# Altium schematic symbol library Analog_ADC.SchLib: 156 symbols (part 1 of 2)
Pins are listed as number, name and electrical type; pins without a type are passive.

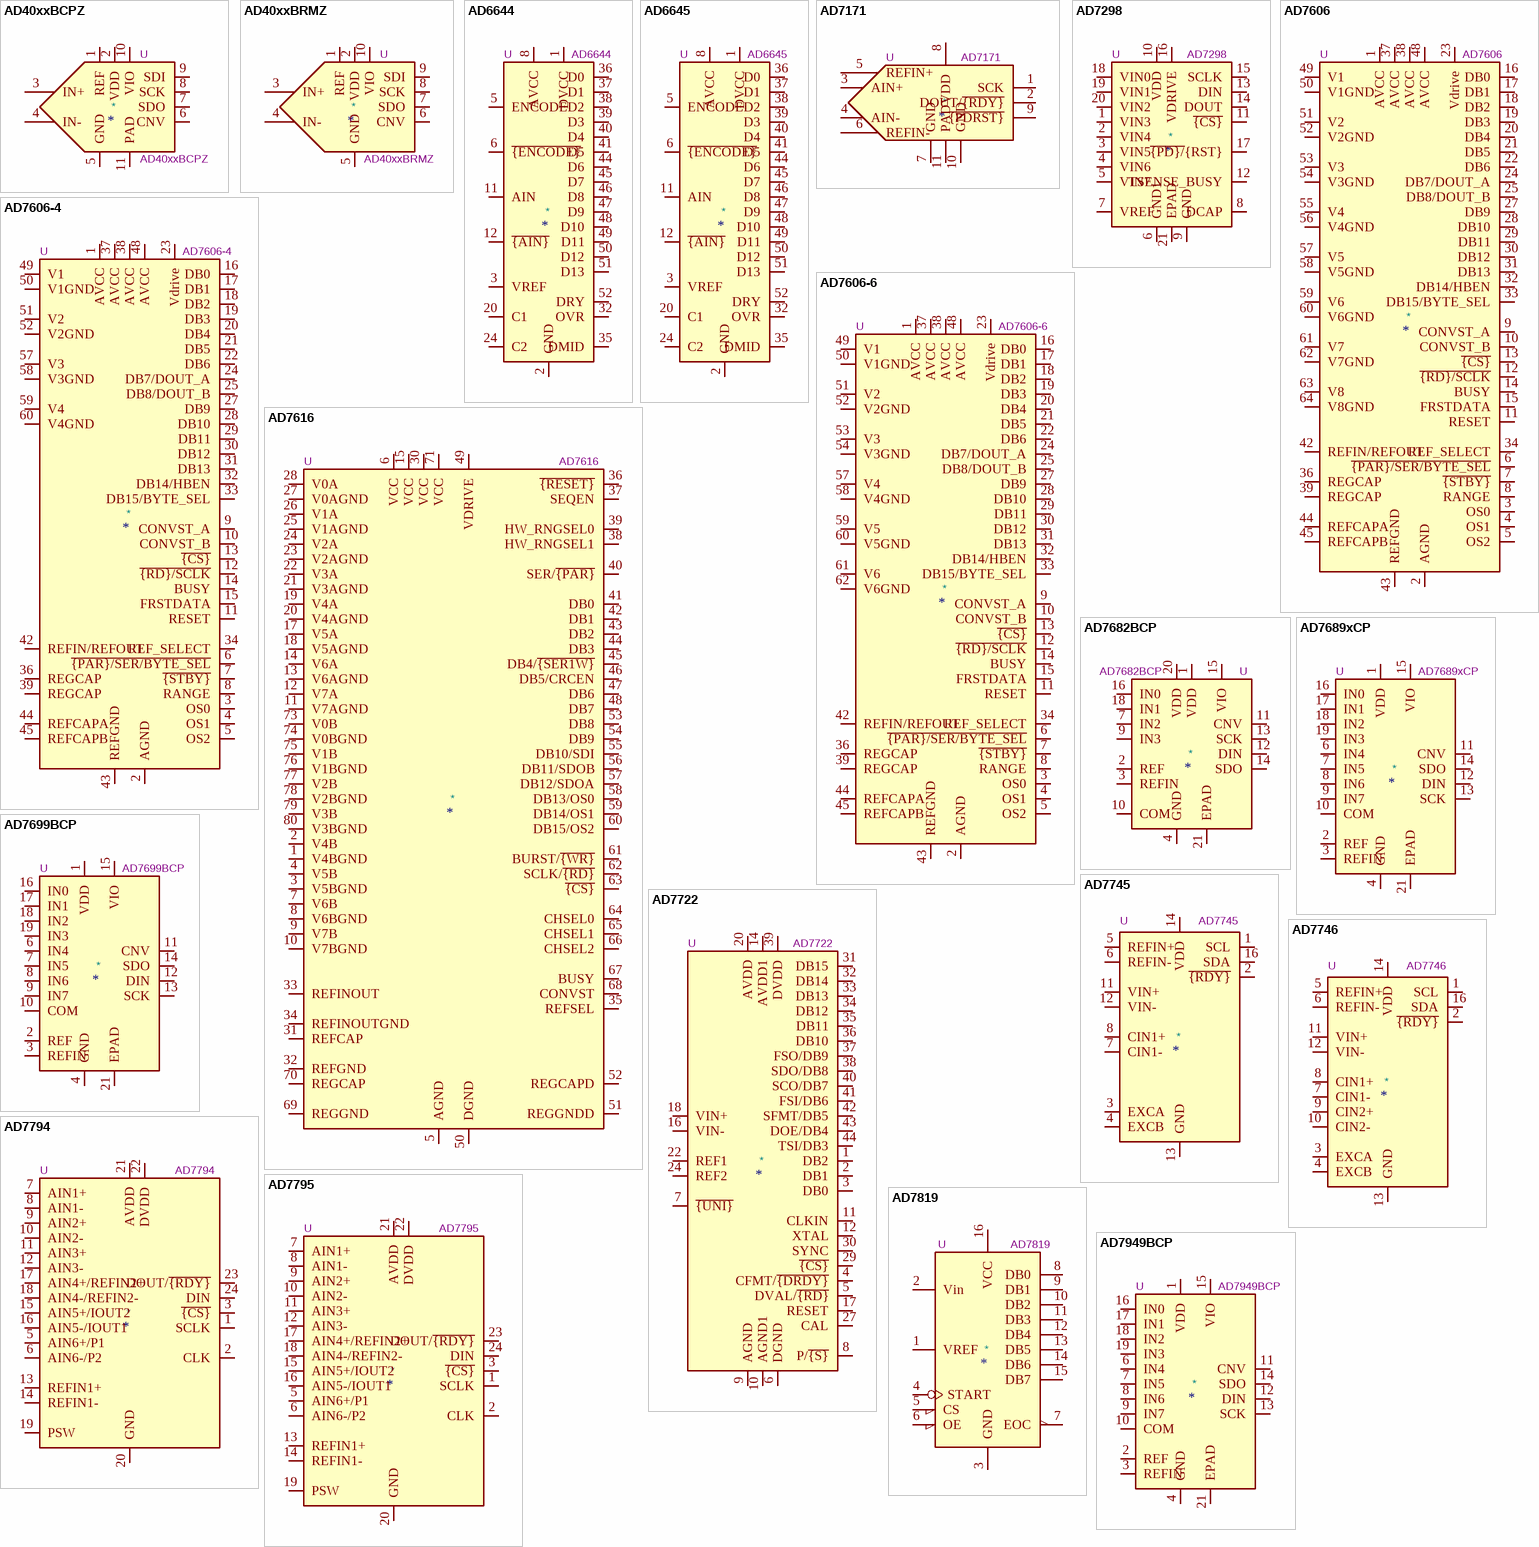
[diagram p0: symbols AD40xxBCPZ to AD7949BCP]

## AD40xxBCPZ
designator *  value AD40xxBCPZ  Reference: U
ki_keywords: ADC 18-bit AD4003BCPZ AD4007BCPZ AD4011BCPZ; ki_description: 18-Bit, 2 MSPS/1 MSPS/500 kSPS, Differential SAR ADCs, 2.4V to 5.1V reference, 1.8V supply, 1.71 to 5.5V logic IO, 3x3mm LFCSP-10; ki_fp_filters: *LFCSP?WD*EP?3x3mm?P0.5mm?EP1.64x2.38mm*; Footprint: Package_CSP:LFCSP-WD-10-1EP_3x3mm_P0.5mm_EP1.64x2.38mm; Datasheet: https://www.analog.com/media/en/technical-documentation/data-sheets/ad4003-4007-4011.pdf
pins: 1 REF, 2 VDD, 3 IN+, 4 IN-, 5 GND, 6 CNV, 7 SDO, 8 SCK, 9 SDI, 10 VIO, 11 PAD

## AD40xxBRMZ
designator *  value AD40xxBRMZ  Reference: U
ki_keywords: ADC 18-bit AD4003BRMZ AD4007BRMZ AD4011BRMZ; ki_description: 18-Bit, 2 MSPS/1 MSPS/500 kSPS, Differential SAR ADCs, 2.4V to 5.1V reference, 1.8V supply, 1.71 to 5.5V logic IO, MSOP-10; ki_fp_filters: *MSOP*3x3mm?P0.5mm*; Footprint: Package_SO:MSOP-10_3x3mm_P0.5mm; Datasheet: https://www.analog.com/media/en/technical-documentation/data-sheets/ad4003-4007-4011.pdf
pins: 1 REF, 2 VDD, 3 IN+, 4 IN-, 5 GND, 6 CNV, 7 SDO, 8 SCK, 9 SDI, 10 VIO

## AD6644
designator *  value AD6644  Reference: U
ki_keywords: ADC differential analog digital converter; ki_description: A/D Converter, 14-Bit, 40 MSPS/65 MSPS, TQFP-52; ki_fp_filters: TQFP*1EP*10x10mm*P0.65mm*; Footprint: Package_QFP:TQFP-52-1EP_10x10mm_P0.65mm_EP6.5x6.5mm; Datasheet: https://www.analog.com/media/en/technical-documentation/data-sheets/AD6644.pdf
pins: 1 DVCC, 2 GND, 3 VREF, 4 GND hidden, 5 ENCODE, 6 ~{{ENCODE}}, 7 GND hidden, 8 AVCC, 9 AVCC hidden, 10 GND hidden, 11 AIN, 12 ~{{AIN}}, 13 GND hidden, 14 AVCC hidden, 15 GND hidden, 16 AVCC hidden, 17 GND hidden, 18 AVCC hidden, 19 GND hidden, 20 C1, 21 GND hidden, 22 AVCC hidden, 23 GND hidden, 24 C2, 25 GND hidden, 26 AVCC hidden, 27 GND hidden, 28 AVCC hidden, 29 GND hidden, 30 AVCC hidden, 31 DNC hidden, 32 OVR, 33 DVCC hidden, 34 GND hidden, 35 DMID, 36 D0, 37 D1, 38 D2, 39 D3, 40 D4, 41 D5, 42 GND hidden, 43 DVCC hidden, 44 D6, 45 D7, 46 D8, 47 D9, 48 D10, 49 D11, 50 D12, 51 D13, 52 DRY, 53 GND hidden

## AD6645
designator *  value AD6645  Reference: U
ki_keywords: ADC differential analog digital converter; ki_description: A/D Converter, 14-Bit, 80 MSPS/105 MSPS, TQFP-52; ki_fp_filters: TQFP*1EP*10x10mm*P0.65mm*; Footprint: Package_QFP:TQFP-52-1EP_10x10mm_P0.65mm_EP6.5x6.5mm; Datasheet: https://www.analog.com/media/en/technical-documentation/data-sheets/AD6645.pdf
pins: 1 DVCC, 2 GND, 3 VREF, 4 GND hidden, 5 ENCODE, 6 ~{{ENCODE}}, 7 GND hidden, 8 AVCC, 9 AVCC hidden, 10 GND hidden, 11 AIN, 12 ~{{AIN}}, 13 GND hidden, 14 AVCC hidden, 15 GND hidden, 16 AVCC hidden, 17 GND hidden, 18 AVCC hidden, 19 GND hidden, 20 C1, 21 GND hidden, 22 AVCC hidden, 23 GND hidden, 24 C2, 25 GND hidden, 26 AVCC hidden, 27 GND hidden, 28 AVCC hidden, 29 GND hidden, 30 AVCC hidden, 31 DNC hidden, 32 OVR, 33 DVCC hidden, 34 GND hidden, 35 DMID, 36 D0, 37 D1, 38 D2, 39 D3, 40 D4, 41 D5, 42 GND hidden, 43 DVCC hidden, 44 D6, 45 D7, 46 D8, 47 D9, 48 D10, 49 D11, 50 D12, 51 D13, 52 DRY, 53 GND hidden

## AD7171
designator *  value AD7171  Reference: U
ki_keywords: sigma delta adc spi 1ch; ki_description: Single channel Analog to Digital Converter, 16-bit, differential input, 125Hz, SPI interface; ki_fp_filters: DFN*1EP*3x3mm*P0.5mm*EP1.55x2.48mm*; Footprint: Package_DFN_QFN:DFN-10-1EP_3x3mm_P0.5mm_EP1.55x2.48mm; Datasheet: https://www.analog.com/media/en/technical-documentation/data-sheets/AD7171.pdf
pins: 1 SCK, 2 DOUT/~{{RDY}}, 3 AIN+, 4 AIN-, 5 REFIN+, 6 REFIN-, 7 GND, 8 VDD, 9 ~{{PDRST}}, 10 GND, 11 PAD

## AD7298
designator *  value AD7298  Reference: U
ki_keywords: ADC, 3.3V, SPI; ki_description: 8 channel, 1MSPS, 12-bit SAR ADC with Temperature Sensor, LFCSP-20; ki_fp_filters: LFCSP*1EP*4x4mm*P0.5mm*; Footprint: Package_CSP:LFCSP-20-1EP_4x4mm_P0.5mm_EP2.6x2.6mm_ThermalVias; Datasheet: https://www.analog.com/media/en/technical-documentation/data-sheets/AD7298.pdf
pins: 1 VIN3, 2 VIN4, 3 VIN5, 4 VIN6, 5 VIN7, 6 GND1, 7 VREF, 8 DCAP, 9 GND, 10 VDD, 11 ~{{CS}}, 12 TSENSE_BUSY, 13 DIN, 14 DOUT, 15 SCLK, 16 VDRIVE, 17 ~{{PD}/}{RST}, 18 VIN0, 19 VIN1, 20 VIN2, 21 EPAD

## AD7606
designator *  value AD7606  Reference: U
ki_keywords: 16bit DAS ADC 8channel 200KSPS; ki_description: 8-Channel DAS with 16-Bit, Bipolar Input, Simultaneous Sampling ADC, LQFP-64; ki_fp_filters: LQFP*10x10mm*P0.5mm*; Footprint: Package_QFP:LQFP-64_10x10mm_P0.5mm; Datasheet: https://www.analog.com/media/en/technical-documentation/data-sheets/ad7606_7606-6_7606-4.pdf
pins: 1 AVCC, 2 AGND, 3 OS0, 4 OS1, 5 OS2, 6 ~{{PAR}/SER/BYTE_SEL}, 7 ~{{STBY}}, 8 RANGE, 9 CONVST_A, 10 CONVST_B, 11 RESET, 12 ~{{RD}/SCLK}, 13 ~{{CS}}, 14 BUSY, 15 FRSTDATA, 16 DB0, 17 DB1, 18 DB2, 19 DB3, 20 DB4, 21 DB5, 22 DB6, 23 Vdrive, 24 DB7/DOUT_A, 25 DB8/DOUT_B, 26 AGND hidden, 27 DB9, 28 DB10, 29 DB11, 30 DB12, 31 DB13, 32 DB14/HBEN, 33 DB15/BYTE_SEL, 34 REF_SELECT, 35 AGND hidden, 36 REGCAP, 37 AVCC, 38 AVCC, 39 REGCAP, 40 AGND hidden, 41 AGND hidden, 42 REFIN/REFOUT, 43 REFGND, 44 REFCAPA, 45 REFCAPB, 46 REFGND hidden, 47 AGND hidden, 48 AVCC, 49 V1, 50 V1GND, 51 V2, 52 V2GND, 53 V3, 54 V3GND, 55 V4, 56 V4GND, 57 V5, 58 V5GND, 59 V6, 60 V6GND, 61 V7, 62 V7GND, 63 V8, 64 V8GND

## AD7606-4
designator *  value AD7606-4  Reference: U
ki_keywords: 16bit DAS ADC 4channel 200KSPS; ki_description: 4-Channel DAS with 16-Bit, Bipolar Input, Simultaneous Sampling ADC, LQFP-64; ki_fp_filters: LQFP*10x10mm*P0.5mm*; Footprint: Package_QFP:LQFP-64_10x10mm_P0.5mm; Datasheet: https://www.analog.com/media/en/technical-documentation/data-sheets/ad7606_7606-6_7606-4.pdf
pins: 1 AVCC, 2 AGND, 3 OS0, 4 OS1, 5 OS2, 6 ~{{PAR}/SER/BYTE_SEL}, 7 ~{{STBY}}, 8 RANGE, 9 CONVST_A, 10 CONVST_B, 11 RESET, 12 ~{{RD}/SCLK}, 13 ~{{CS}}, 14 BUSY, 15 FRSTDATA, 16 DB0, 17 DB1, 18 DB2, 19 DB3, 20 DB4, 21 DB5, 22 DB6, 23 Vdrive, 24 DB7/DOUT_A, 25 DB8/DOUT_B, 26 AGND hidden, 27 DB9, 28 DB10, 29 DB11, 30 DB12, 31 DB13, 32 DB14/HBEN, 33 DB15/BYTE_SEL, 34 REF_SELECT, 35 AGND hidden, 36 REGCAP, 37 AVCC, 38 AVCC, 39 REGCAP, 40 AGND hidden, 41 AGND hidden, 42 REFIN/REFOUT, 43 REFGND, 44 REFCAPA, 45 REFCAPB, 46 REFGND hidden, 47 AGND hidden, 48 AVCC, 49 V1, 50 V1GND, 51 V2, 52 V2GND, 53 AGND hidden, 54 AGND hidden, 55 AGND hidden, 56 AGND hidden, 57 V3, 58 V3GND, 59 V4, 60 V4GND, 61 AGND hidden, 62 AGND hidden, 63 AGND hidden, 64 AGND hidden

## AD7606-6
designator *  value AD7606-6  Reference: U
ki_keywords: 16bit DAS ADC 6channel 200KSPS; ki_description: 6-Channel DAS with 16-Bit, Bipolar Input, Simultaneous Sampling ADC, LQFP-64; ki_fp_filters: LQFP*10x10mm*P0.5mm*; Footprint: Package_QFP:LQFP-64_10x10mm_P0.5mm; Datasheet: https://www.analog.com/media/en/technical-documentation/data-sheets/ad7606_7606-6_7606-4.pdf
pins: 1 AVCC, 2 AGND, 3 OS0, 4 OS1, 5 OS2, 6 ~{{PAR}/SER/BYTE_SEL}, 7 ~{{STBY}}, 8 RANGE, 9 CONVST_A, 10 CONVST_B, 11 RESET, 12 ~{{RD}/SCLK}, 13 ~{{CS}}, 14 BUSY, 15 FRSTDATA, 16 DB0, 17 DB1, 18 DB2, 19 DB3, 20 DB4, 21 DB5, 22 DB6, 23 Vdrive, 24 DB7/DOUT_A, 25 DB8/DOUT_B, 26 AGND hidden, 27 DB9, 28 DB10, 29 DB11, 30 DB12, 31 DB13, 32 DB14/HBEN, 33 DB15/BYTE_SEL, 34 REF_SELECT, 35 AGND hidden, 36 REGCAP, 37 AVCC, 38 AVCC, 39 REGCAP, 40 AGND hidden, 41 AGND hidden, 42 REFIN/REFOUT, 43 REFGND, 44 REFCAPA, 45 REFCAPB, 46 REFGND hidden, 47 AGND hidden, 48 AVCC, 49 V1, 50 V1GND, 51 V2, 52 V2GND, 53 V3, 54 V3GND, 55 AGND hidden, 56 AGND hidden, 57 V4, 58 V4GND, 59 V5, 60 V5GND, 61 V6, 62 V6GND, 63 AGND hidden, 64 AGND hidden

## AD7616
designator *  value AD7616  Reference: U
ki_keywords: 16bit DAS ADC 16channel 1MSPS; ki_description: 16-Channel DAS with 16-Bit, Bipolar Input, Dual Simultaneous Sampling ADC, 2x1MSPS ADC, Serial and parallel IO, LQFP-80; ki_fp_filters: LQFP*14x14mm*P0.65mm*; Footprint: Package_QFP:LQFP-80_14x14mm_P0.65mm; Datasheet: https://www.analog.com/media/en/technical-documentation/data-sheets/AD7616.pdf
pins: 1 V4BGND, 2 V4B, 3 V5BGND, 4 V5B, 5 AGND, 6 VCC, 7 V6B, 8 V6BGND, 9 V7B, 10 V7BGND, 11 V7AGND, 12 V7A, 13 V6AGND, 14 V6A, 15 VCC, 16 AGND hidden, 17 V5A, 18 V5AGND, 19 V4A, 20 V4AGND, 21 V3AGND, 22 V3A, 23 V2AGND, 24 V2A, 25 V1AGND, 26 V1A, 27 V0AGND, 28 V0A, 29 AGND hidden, 30 VCC, 31 REFCAP, 32 REFGND, 33 REFINOUT, 34 REFINOUTGND, 35 REFSEL, 36 ~{{RESET}}, 37 SEQEN, 38 HW_RNGSEL1, 39 HW_RNGSEL0, 40 SER/~{{PAR}}, 41 DB0, 42 DB1, 43 DB2, 44 DB3, 45 DB4/~{{SER1W}}, 46 DB5/CRCEN, 47 DB6, 48 DB7, 49 VDRIVE, 50 DGND, 51 REGGNDD, 52 REGCAPD, 53 DB8, 54 DB9, 55 DB10/SDI, 56 DB11/SDOB, 57 DB12/SDOA, 58 DB13/OS0, 59 DB14/OS1, 60 DB15/OS2, 61 BURST/~{{WR}}, 62 SCLK/~{{RD}}, 63 ~{{CS}}, 64 CHSEL0, 65 CHSEL1, 66 CHSEL2, 67 BUSY, 68 CONVST, 69 REGGND, 70 REGCAP, 71 VCC, 72 AGND hidden, 73 V0B, 74 V0BGND, 75 V1B, 76 V1BGND, 77 V2B, 78 V2BGND, 79 V3B, 80 V3BGND

## AD7682BCP
designator *  value AD7682BCP  Reference: U
ki_keywords: 16-Bit 4-Channel 250kSPS; ki_description: 16-bit, 4-Channel, 250kSPS, PulSAR ADC, Bipolar-Unipolar, LFCSP-20; ki_fp_filters: LFCSP*1EP*4x4mm*P0.5mm*; Footprint: Package_CSP:LFCSP-20-1EP_4x4mm_P0.5mm_EP2.5x2.5mm; Datasheet: https://www.analog.com/media/en/technical-documentation/data-sheets/AD7682_7689.pdf
pins: 1 VDD, 2 REF, 3 REFIN, 4 GND, 5 GND hidden, 6 NC hidden, 7 IN2, 8 NC hidden, 9 IN3, 10 COM, 11 CNV, 12 DIN, 13 SCK, 14 SDO, 15 VIO, 16 IN0, 17 NC hidden, 18 IN1, 19 NC hidden, 20 VDD, 21 EPAD

## AD7689xCP
designator *  value AD7689xCP  Reference: U
ki_keywords: ADC, SPI; ki_description: 16-Bit, 8-Channel, 250 kSPS PulSAR ADC, LFSCP-20; ki_fp_filters: LFCSP*1EP*4x4mm*P0.5mm*; Footprint: Package_CSP:LFCSP-20-1EP_4x4mm_P0.5mm_EP2.5x2.5mm; Datasheet: https://www.analog.com/media/en/technical-documentation/data-sheets/AD7682_7689.pdf
pins: 1 VDD, 2 REF, 3 REFIN, 4 GND, 5 GND hidden, 6 IN4, 7 IN5, 8 IN6, 9 IN7, 10 COM, 11 CNV, 12 DIN, 13 SCK, 14 SDO, 15 VIO, 16 IN0, 17 IN1, 18 IN2, 19 IN3, 20 VDD hidden, 21 EPAD

## AD7699BCP
designator *  value AD7699BCP  Reference: U
ki_keywords: ADC, SPI; ki_description: 16-Bit, 8-Channel, 500 kSPS PulSAR ADC, LFSCP-20; ki_fp_filters: LFCSP*1EP*4x4mm*P0.5mm*; Footprint: Package_CSP:LFCSP-20-1EP_4x4mm_P0.5mm_EP2.5x2.5mm; Datasheet: https://www.analog.com/media/en/technical-documentation/data-sheets/AD7699.pdf
pins: 1 VDD, 2 REF, 3 REFIN, 4 GND, 5 GND hidden, 6 IN4, 7 IN5, 8 IN6, 9 IN7, 10 COM, 11 CNV, 12 DIN, 13 SCK, 14 SDO, 15 VIO, 16 IN0, 17 IN1, 18 IN2, 19 IN3, 20 VDD hidden, 21 EPAD

## AD7722
designator *  value AD7722  Reference: U
ki_keywords: adc 1ch 16bit parallel serial; ki_description: 16-Bit, 195 kSPS CMOS, Sigma-Delta ADC, MQFP-44; ki_fp_filters: MQFP*10x10mm*P0.8mm*; Footprint: Package_QFP:MQFP-44_10x10mm_P0.8mm; Datasheet: https://www.analog.com/media/en/technical-documentation/data-sheets/AD7722.pdf
pins: 1 DB2, 2 DB1, 3 DB0, 4 CFMT/~{{DRDY}}, 5 DVAL/~{{RD}}, 6 DGND, 7 ~{{UNI}}, 8 P/~{{S}}, 9 AGND, 10 AGND1, 11 CLKIN, 12 XTAL, 13 AGND hidden, 14 AVDD1, 15 AGND hidden, 16 VIN-, 17 RESET, 18 VIN+, 19 AGND hidden, 20 AVDD, 21 AGND hidden, 22 REF1, 23 AVDD hidden, 24 REF2, 25 AGND hidden, 26 AGND hidden, 27 CAL, 28 DGND hidden, 29 ~{{CS}}, 30 SYNC, 31 DB15, 32 DB14, 33 DB13, 34 DB12, 35 DB11, 36 DB10, 37 FSO/DB9, 38 SDO/DB8, 39 DVDD, 40 SCO/DB7, 41 FSI/DB6, 42 SFMT/DB5, 43 DOE/DB4, 44 TSI/DB3

## AD7745
designator *  value AD7745  Reference: U
ki_keywords: adc cdc capacitance; ki_description: 24-bit capacitance-to-digital converter with temperature sensor, TSSOP-16; ki_fp_filters: TSSOP*4.4x5mm*P0.65mm*; Footprint: Package_SO:TSSOP-16_4.4x5mm_P0.65mm; Datasheet: https://www.analog.com/media/en/technical-documentation/data-sheets/AD7745_7746.pdf
pins: 1 SCL, 2 ~{{RDY}}, 3 EXCA, 4 EXCB, 5 REFIN+, 6 REFIN-, 7 CIN1-, 8 CIN1+, 9 NC hidden, 10 NC hidden, 11 VIN+, 12 VIN-, 13 GND, 14 VDD, 15 NC hidden, 16 SDA

## AD7746
designator *  value AD7746  Reference: U
ki_keywords: adc cdc capacitance; ki_description: 24-bit capacitance-to-digital converter with temperature sensor, TSSOP-16; ki_fp_filters: TSSOP*4.4x5mm*P0.65mm*; Footprint: Package_SO:TSSOP-16_4.4x5mm_P0.65mm; Datasheet: https://www.analog.com/media/en/technical-documentation/data-sheets/AD7745_7746.pdf
pins: 1 SCL, 2 ~{{RDY}}, 3 EXCA, 4 EXCB, 5 REFIN+, 6 REFIN-, 7 CIN1-, 8 CIN1+, 9 CIN2+, 10 CIN2-, 11 VIN+, 12 VIN-, 13 GND, 14 VDD, 15 NC hidden, 16 SDA

## AD7794
designator *  value AD7794  Reference: U
ki_keywords: adc 6ch 24bit serial; ki_description: 24-Bit, 6-Channel Sigma-Delta ADC, TSSOP-28; ki_fp_filters: TSSOP*4.4x7.8mm*P0.65mm*; Footprint: Package_SO:TSSOP-24_4.4x7.8mm_P0.65mm; Datasheet: https://www.analog.com/media/en/technical-documentation/data-sheets/AD7794_7795.pdf
pins: 1 SCLK, 2 CLK, 3 ~{{CS}}, 4 NC hidden, 5 AIN6+/P1, 6 AIN6-/P2, 7 AIN1+, 8 AIN1-, 9 AIN2+, 10 AIN2-, 11 AIN3+, 12 AIN3-, 13 REFIN1+, 14 REFIN1-, 15 AIN5+/IOUT2, 16 AIN5-/IOUT1, 17 AIN4+/REFIN2+, 18 AIN4-/REFIN2-, 19 PSW, 20 GND, 21 AVDD, 22 DVDD, 23 DOUT/~{{RDY}}, 24 DIN

## AD7795
designator *  value AD7795  Reference: U
ki_keywords: adc 6ch 16bit serial; ki_description: 16-Bit, 6-Channel Sigma-Delta ADC, TSSOP-28; ki_fp_filters: TSSOP*4.4x7.8mm*P0.65mm*; Footprint: Package_SO:TSSOP-24_4.4x7.8mm_P0.65mm; Datasheet: https://www.analog.com/media/en/technical-documentation/data-sheets/AD7794_7795.pdf
pins: 1 SCLK, 2 CLK, 3 ~{{CS}}, 4 NC hidden, 5 AIN6+/P1, 6 AIN6-/P2, 7 AIN1+, 8 AIN1-, 9 AIN2+, 10 AIN2-, 11 AIN3+, 12 AIN3-, 13 REFIN1+, 14 REFIN1-, 15 AIN5+/IOUT2, 16 AIN5-/IOUT1, 17 AIN4+/REFIN2+, 18 AIN4-/REFIN2-, 19 PSW, 20 GND, 21 AVDD, 22 DVDD, 23 DOUT/~{{RDY}}, 24 DIN

## AD7819
designator *  value AD7819  Reference: U
ki_keywords: CAD; ki_description: Analog to Digital 8 bits converter, PDIP/SOIC/TSSOP-16; Datasheet: https://www.analog.com/media/en/technical-documentation/data-sheets/AD7819.pdf
pins: 1 VREF, 2 Vin, 3 GND, 4 START, 5 CS, 6 OE, 7 EOC, 8 DB0, 9 DB1, 10 DB2, 11 DB3, 12 DB4, 13 DB5, 14 DB6, 15 DB7, 16 VCC

## AD7949BCP
designator *  value AD7949BCP  Reference: U
ki_keywords: ADC, SPI; ki_description: 14-Bit, 8-Channel, 250 kSPS PulSAR ADC, LFSCP-20; ki_fp_filters: LFCSP*1EP*4x4mm*P0.5mm*; Footprint: Package_CSP:LFCSP-20-1EP_4x4mm_P0.5mm_EP2.5x2.5mm; Datasheet: https://www.analog.com/media/en/technical-documentation/data-sheets/AD7949.pdf
pins: 1 VDD, 2 REF, 3 REFIN, 4 GND, 5 GND hidden, 6 IN4, 7 IN5, 8 IN6, 9 IN7, 10 COM, 11 CNV, 12 DIN, 13 SCK, 14 SDO, 15 VIO, 16 IN0, 17 IN1, 18 IN2, 19 IN3, 20 VDD hidden, 21 EPAD

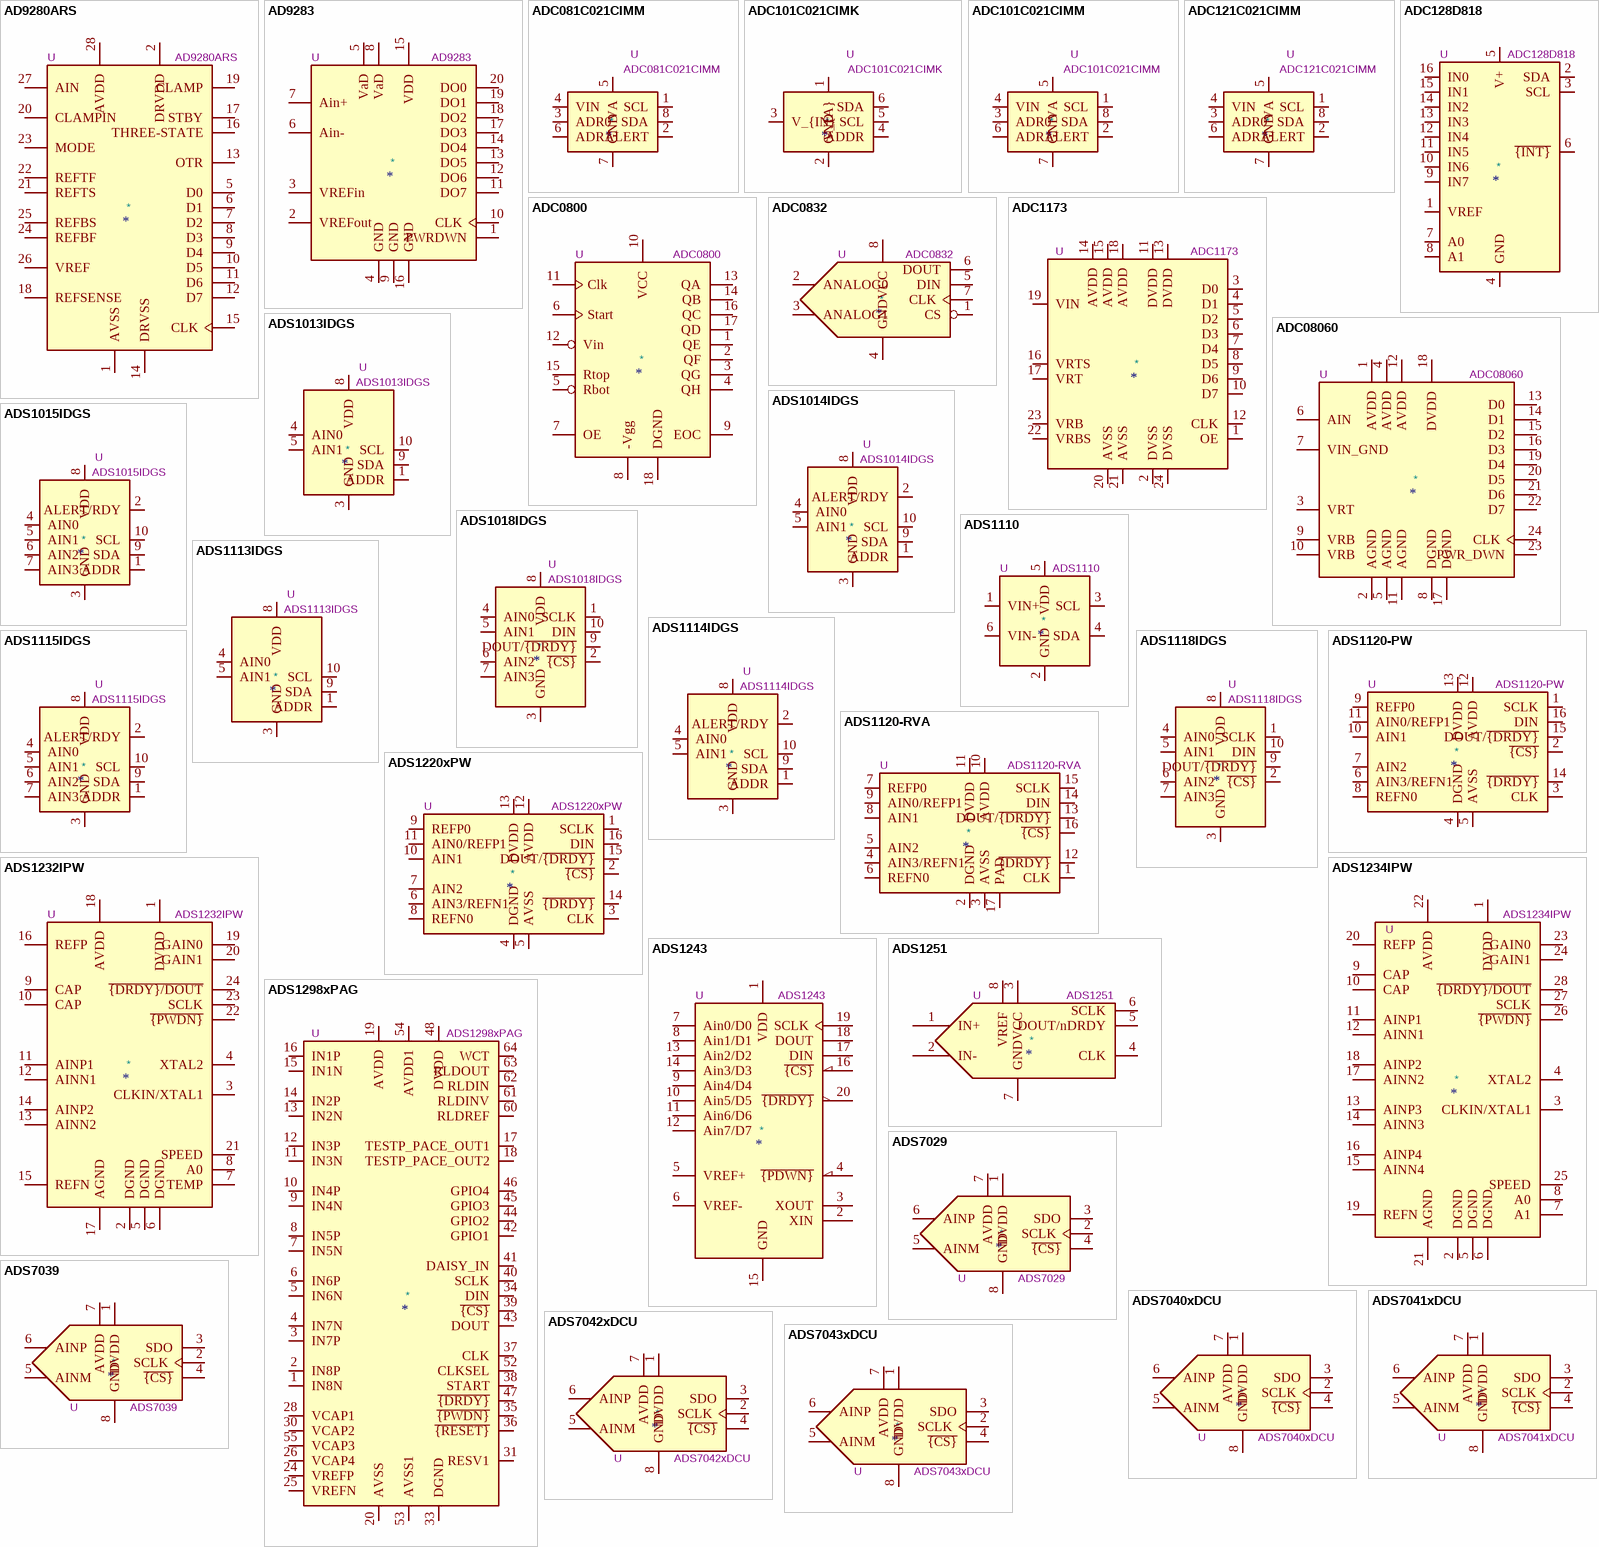
[diagram p1: symbols AD9280ARS to ADS7043xDCU]

## AD9280ARS
designator *  value AD9280ARS  Reference: U
ki_keywords: ADC CAN VIDEO; ki_description: Video ADC (32 Mhz), SSOP-28; Datasheet: https://www.analog.com/media/en/technical-documentation/data-sheets/AD9280.pdf
pins: 1 AVSS, 2 DRVDD, 5 D0, 6 D1, 7 D2, 8 D3, 9 D4, 10 D5, 11 D6, 12 D7, 13 OTR, 14 DRVSS, 15 CLK, 16 THREE-STATE, 17 STBY, 18 REFSENSE, 19 CLAMP, 20 CLAMPIN, 21 REFTS, 22 REFTF, 23 MODE, 24 REFBF, 25 REFBS, 26 VREF, 27 AIN, 28 AVDD

## AD9283
designator *  value AD9283  Reference: U
ki_keywords: ADC; ki_description: ADC 50MHz 8 bits, SSOP-20; Datasheet: https://www.analog.com/media/en/technical-documentation/data-sheets/AD9283.pdf
pins: 1 PWRDWN, 2 VREFout, 3 VREFin, 4 GND, 5 VaD, 6 Ain-, 7 Ain+, 8 VaD, 9 GND, 10 CLK, 11 DO7, 12 DO6, 13 DO5, 14 DO4, 15 VDD, 16 GND, 17 DO3, 18 DO2, 19 DO1, 20 DO0

## ADC081C021CIMM
designator *  value ADC081C021CIMM  Reference: U
ki_keywords: ADC I2C 8-bit Alert; ki_description: I2C-Compatible, 8-Bit Analog-to-Digital Converter with Alert Function, MSOP-8; ki_fp_filters: MSOP*3x3mm*P0.65mm*; Footprint: Package_SO:MSOP-8_3x3mm_P0.65mm; Datasheet: http://www.ti.com/lit/ds/symlink/adc081c021.pdf
pins: 1 SCL, 2 ALERT, 3 ADR0, 4 VIN, 5 VA, 6 ADR1, 7 GND, 8 SDA

## ADC101C021CIMK
designator *  value ADC101C021CIMK  Reference: U
ki_keywords: adc 10-bit i2c; ki_description: 10-bit I2C ADC, SOT-23; ki_fp_filters: SOT?23*; Footprint: Package_TO_SOT_SMD:SOT-23-6; Datasheet: https://www.ti.com/lit/ds/symlink/adc101c021.pdf
pins: 1 V_{A}, 2 GND, 3 V_{IN}, 4 ADDR, 5 SCL, 6 SDA

## ADC101C021CIMM
designator *  value ADC101C021CIMM  Reference: U
ki_keywords: ADC I2C 10-bit Alert; ki_description: I2C-Compatible, 10-Bit Analog-to-Digital Converter with Alert Function, MSOP-8; ki_fp_filters: MSOP*3x3mm*P0.65mm*; Footprint: Package_SO:MSOP-8_3x3mm_P0.65mm; Datasheet: http://www.ti.com/lit/ds/symlink/adc101c021.pdf
pins: 1 SCL, 2 ALERT, 3 ADR0, 4 VIN, 5 VA, 6 ADR1, 7 GND, 8 SDA

## ADC121C021CIMM
designator *  value ADC121C021CIMM  Reference: U
ki_keywords: ADC I2C 12-bit Alert; ki_description: I2C-Compatible, 12-Bit Analog-to-Digital Converter with Alert Function, MSOP-8; ki_fp_filters: MSOP*3x3mm*P0.65mm*; Footprint: Package_SO:MSOP-8_3x3mm_P0.65mm; Datasheet: http://www.ti.com/lit/ds/symlink/adc121c021.pdf
pins: 1 SCL, 2 ALERT, 3 ADR0, 4 VIN, 5 VA, 6 ADR1, 7 GND, 8 SDA

## ADC128D818
designator *  value ADC128D818  Reference: U
ki_keywords: ADC 8 Channels TSSOP I2C; ki_description: 12-Bit, 8-Channel, ADC System Monitor With Temperature Sensor, I2C Interface, TSSOP-16; ki_fp_filters: TSSOP*4.4x5mm*P0.65mm*; Footprint: Package_SO:TSSOP-16_4.4x5mm_P0.65mm; Datasheet: http://www.ti.com/lit/ds/symlink/adc128d818.pdf
pins: 1 VREF, 2 SDA, 3 SCL, 4 GND, 5 V+, 6 ~{{INT}}, 7 A0, 8 A1, 9 IN7, 10 IN6, 11 IN5, 12 IN4, 13 IN3, 14 IN2, 15 IN1, 16 IN0

## ADC0800
designator *  value ADC0800  Reference: U
ki_keywords: CAD; ki_description: Analog to Digital 8 bits converter, DIP-18 (Hermetic); Datasheet: http://www.ti.com/lit/ds/snas562/snas562.pdf
pins: 1 QE, 2 QF, 3 QG, 4 QH, 5 Rbot, 6 Start, 7 OE, 8 -Vgg, 9 EOC, 10 VCC, 11 Clk, 12 Vin, 13 QA, 14 QB, 15 Rtop, 16 QC, 17 QD, 18 DGND

## ADC0832
designator *  value ADC0832  Reference: U
ki_keywords: ADC CAN; ki_description: 2 inputs AD Converter (serial output),; Datasheet: http://www.ti.com/lit/ds/symlink/adc0831-n.pdf
pins: 1 CS, 2 ANALOG0, 3 ANALOG1, 4 GND, 5 DIN, 6 DOUT, 7 CLK, 8 VCC

## ADC1173
designator *  value ADC1173  Reference: U
ki_keywords: ADC CAN VIDEO; ki_description: Fast ADC  (15 Mhz), TSSOP-24; Datasheet: http://www.ti.com/lit/ds/symlink/adc1173.pdf
pins: 1 OE, 2 DVSS, 3 D0, 4 D1, 5 D2, 6 D3, 7 D4, 8 D5, 9 D6, 10 D7, 11 DVDD, 12 CLK, 13 DVDD, 14 AVDD, 15 AVDD, 16 VRTS, 17 VRT, 18 AVDD, 19 VIN, 20 AVSS, 21 AVSS, 22 VRBS, 23 VRB, 24 DVSS

## ADC08060
designator *  value ADC08060  Reference: U
ki_keywords: ADC CAN VIDEO; ki_description: Fast ADC  (20 .. 60 Mhz), TSSOP-24; Datasheet: http://www.ti.com/lit/ds/symlink/adc08060.pdf
pins: 1 AVDD, 2 AGND, 3 VRT, 4 AVDD, 5 AGND, 6 AIN, 7 VIN_GND, 8 DGND, 9 VRB, 10 VRB, 11 AGND, 12 AVDD, 13 D0, 14 D1, 15 D2, 16 D3, 17 DGND, 18 DVDD, 19 D4, 20 D5, 21 D6, 22 D7, 23 PWR_DWN, 24 CLK

## ADS1013IDGS
designator *  value ADS1013IDGS  Reference: U
ki_keywords: 12 bit single channel I2C ADC; ki_description: Ultra-Small, Low-Power, I2C-Compatible, 3.3-kSPS, 12-Bit ADCs With Internal Reference and Oscillator, VSSOP-10; ki_fp_filters: TSSOP*3x3mm*P0.5mm*; Footprint: Package_SO:TSSOP-10_3x3mm_P0.5mm; Datasheet: http://www.ti.com/lit/ds/symlink/ads1015.pdf
pins: 1 ADDR, 2 hidden, 3 GND, 4 AIN0, 5 AIN1, 6 hidden, 7 hidden, 8 VDD, 9 SDA, 10 SCL

## ADS1014IDGS
designator *  value ADS1014IDGS  Reference: U
ki_keywords: 12 bit single channel I2C ADC; ki_description: Ultra-Small, Low-Power, I2C-Compatible, 3.3-kSPS, 12-Bit ADCs With Internal Reference, Oscillator, and Programmable Comparator, VSSOP-10; ki_fp_filters: TSSOP*3x3mm*P0.5mm*; Footprint: Package_SO:TSSOP-10_3x3mm_P0.5mm; Datasheet: http://www.ti.com/lit/ds/symlink/ads1015.pdf
pins: 1 ADDR, 2 ALERT/RDY, 3 GND, 4 AIN0, 5 AIN1, 6 hidden, 7 hidden, 8 VDD, 9 SDA, 10 SCL

## ADS1015IDGS
designator *  value ADS1015IDGS  Reference: U
ki_keywords: 12 bit 4 channel I2C ADC; ki_description: Ultra-Small, Low-Power, I2C-Compatible, 3.3-kSPS, 12-Bit ADCs With Internal Reference, Oscillator, and Programmable Comparator, VSSOP-10; ki_fp_filters: TSSOP*3x3mm*P0.5mm*; Footprint: Package_SO:TSSOP-10_3x3mm_P0.5mm; Datasheet: http://www.ti.com/lit/ds/symlink/ads1015.pdf
pins: 1 ADDR, 2 ALERT/RDY, 3 GND, 4 AIN0, 5 AIN1, 6 AIN2, 7 AIN3, 8 VDD, 9 SDA, 10 SCL

## ADS1018IDGS
designator *  value ADS1018IDGS  Reference: U
ki_keywords: 12 bit 4 channel SPI ADC; ki_description: Ultrasmall, Low-Power, SPI-Compatible, 12-Bit, Analog-to-Digital Converter With Internal Reference and Temperature Sensor, VSSOP-10; ki_fp_filters: TSSOP*3x3mm*P0.5mm*; Datasheet: http://www.ti.com/lit/ds/symlink/ads1018.pdf
pins: 1 SCLK, 2 ~{{CS}}, 3 GND, 4 AIN0, 5 AIN1, 6 AIN2, 7 AIN3, 8 VDD, 9 DOUT/~{{DRDY}}, 10 DIN

## ADS1110
designator *  value ADS1110  Reference: U
ki_keywords: 16 Bit Analog to digital converter ADC; ki_description: 16 Bit Analog to Digital converter with on board reference; ki_fp_filters: SOT?23*; Footprint: Package_TO_SOT_SMD:SOT-23-6; Datasheet: http://www.ti.com/lit/ds/symlink/ads1110.pdf
pins: 1 VIN+, 2 GND, 3 SCL, 4 SDA, 5 VDD, 6 VIN-

## ADS1113IDGS
designator *  value ADS1113IDGS  Reference: U
ki_keywords: 16 bit single channel I2C ADC; ki_description: Ultra-Small, Low-Power, I2C-Compatible, 860-SPS, 16-Bit ADCs With Internal Reference and Oscillator, VSSOP-10; ki_fp_filters: TSSOP*3x3mm*P0.5mm*; Footprint: Package_SO:TSSOP-10_3x3mm_P0.5mm; Datasheet: http://www.ti.com/lit/ds/symlink/ads1113.pdf
pins: 1 ADDR, 2 hidden, 3 GND, 4 AIN0, 5 AIN1, 6 hidden, 7 hidden, 8 VDD, 9 SDA, 10 SCL

## ADS1114IDGS
designator *  value ADS1114IDGS  Reference: U
ki_keywords: 16 bit single channel I2C ADC; ki_description: Ultra-Small, Low-Power, I2C-Compatible, 860-SPS, 16-Bit ADCs With Internal Reference, Oscillator, and Programmable Comparator, VSSOP-10; ki_fp_filters: TSSOP*3x3mm*P0.5mm*; Footprint: Package_SO:TSSOP-10_3x3mm_P0.5mm; Datasheet: http://www.ti.com/lit/ds/symlink/ads1113.pdf
pins: 1 ADDR, 2 ALERT/RDY, 3 GND, 4 AIN0, 5 AIN1, 6 hidden, 7 hidden, 8 VDD, 9 SDA, 10 SCL

## ADS1115IDGS
designator *  value ADS1115IDGS  Reference: U
ki_keywords: 16 bit 4 channel I2C ADC; ki_description: Ultra-Small, Low-Power, I2C-Compatible, 860-SPS, 16-Bit ADCs With Internal Reference, Oscillator, and Programmable Comparator, VSSOP-10; ki_fp_filters: TSSOP*3x3mm*P0.5mm*; Footprint: Package_SO:TSSOP-10_3x3mm_P0.5mm; Datasheet: http://www.ti.com/lit/ds/symlink/ads1113.pdf
pins: 1 ADDR, 2 ALERT/RDY, 3 GND, 4 AIN0, 5 AIN1, 6 AIN2, 7 AIN3, 8 VDD, 9 SDA, 10 SCL

## ADS1118IDGS
designator *  value ADS1118IDGS  Reference: U
ki_keywords: 16 bit 4 channel SPI ADC; ki_description: Ultrasmall, Low-Power, SPI-Compatible, 16-Bit Analog-to-Digital Converter with Internal Reference and Temperature Sensor, VSSOP-10; ki_fp_filters: TSSOP*3x3mm*P0.5mm*; Datasheet: http://www.ti.com/lit/ds/symlink/ads1118.pdf
pins: 1 SCLK, 2 ~{{CS}}, 3 GND, 4 AIN0, 5 AIN1, 6 AIN2, 7 AIN3, 8 VDD, 9 DOUT/~{{DRDY}}, 10 DIN

## ADS1120-PW
designator *  value ADS1120-PW  Reference: U
ki_keywords: adc spi; ki_description: Low-power, quad-input, 16-bit analog to digital converter, integrated temperature sensor, SPI interface, TSSOP-16 package; ki_fp_filters: *TSSOP*4.4x5mm*P0.65mm*; Footprint: Package_SO:TSSOP-16_4.4x5mm_P0.65mm; Datasheet: http://www.ti.com/lit/ds/symlink/ads1120.pdf
pins: 1 SCLK, 2 ~{{CS}}, 3 CLK, 4 DGND, 5 AVSS, 6 AIN3/REFN1, 7 AIN2, 8 REFN0, 9 REFP0, 10 AIN1, 11 AIN0/REFP1, 12 AVDD, 13 DVDD, 14 ~{{DRDY}}, 15 DOUT/~{{DRDY}}, 16 DIN

## ADS1120-RVA
designator *  value ADS1120-RVA  Reference: U
ki_keywords: adc spi; ki_description: Low-power, quad-input, 16-bit analog to digital converter, integrated temperature sensor, SPI interface, QFN-16 package; ki_fp_filters: QFN*3.5x3.5mm*P0.50mm*; Datasheet: http://www.ti.com/lit/ds/symlink/ads1120.pdf
pins: 1 CLK, 2 DGND, 3 AVSS, 4 AIN3/REFN1, 5 AIN2, 6 REFN0, 7 REFP0, 8 AIN1, 9 AIN0/REFP1, 10 AVDD, 11 DVDD, 12 ~{{DRDY}}, 13 DOUT/~{{DRDY}}, 14 DIN, 15 SCLK, 16 ~{{CS}}, 17 PAD

## ADS1220xPW
designator *  value ADS1220xPW  Reference: U
ki_keywords: adc spi; ki_description: Low-power, quad-input, 24-bit analog to digital converter, integrated temperature sensor, SPI interface, TSSOP-16 package; ki_fp_filters: *TSSOP*4.4x5mm*P0.65mm*; Footprint: Package_SO:TSSOP-16_4.4x5mm_P0.65mm; Datasheet: http://www.ti.com/lit/ds/symlink/ads1220.pdf
pins: 1 SCLK, 2 ~{{CS}}, 3 CLK, 4 DGND, 5 AVSS, 6 AIN3/REFN1, 7 AIN2, 8 REFN0, 9 REFP0, 10 AIN1, 11 AIN0/REFP1, 12 AVDD, 13 DVDD, 14 ~{{DRDY}}, 15 DOUT/~{{DRDY}}, 16 DIN

## ADS1232IPW
designator *  value ADS1232IPW  Reference: U
ki_keywords: ADC 24bit Sensors Dual Channel; ki_description: Single Bridge 24bit ADC for Sensors, TSSOP-24; ki_fp_filters: TSSOP*; Datasheet: http://www.ti.com/lit/ds/symlink/ads1232.pdf
pins: 1 DVDD, 2 DGND, 3 CLKIN/XTAL1, 4 XTAL2, 5 DGND, 6 DGND, 7 TEMP, 8 A0, 9 CAP, 10 CAP, 11 AINP1, 12 AINN1, 13 AINN2, 14 AINP2, 15 REFN, 16 REFP, 17 AGND, 18 AVDD, 19 GAIN0, 20 GAIN1, 21 SPEED, 22 ~{{PWDN}}, 23 SCLK, 24 ~{{DRDY}/DOUT}

## ADS1234IPW
designator *  value ADS1234IPW  Reference: U
ki_keywords: ADC 24bit Sensors Quad Channel; ki_description: Dual Bridge 24bit ADC for Sensors, TSSOP-28; ki_fp_filters: TSSOP*; Datasheet: http://www.ti.com/lit/ds/symlink/ads1232.pdf
pins: 1 DVDD, 2 DGND, 3 CLKIN/XTAL1, 4 XTAL2, 5 DGND, 6 DGND, 7 A1, 8 A0, 9 CAP, 10 CAP, 11 AINP1, 12 AINN1, 13 AINP3, 14 AINN3, 15 AINN4, 16 AINP4, 17 AINN2, 18 AINP2, 19 REFN, 20 REFP, 21 AGND, 22 AVDD, 23 GAIN0, 24 GAIN1, 25 SPEED, 26 ~{{PWDN}}, 27 SCLK, 28 ~{{DRDY}/DOUT}

## ADS1243
designator *  value ADS1243  Reference: U
ki_keywords: 24bit ADC 8 Channels PGA SPI; ki_description: 24-bit ADC, 8 Channels, SPI compatible, PGA 1 to 128, TSSOP-20; ki_fp_filters: TSSOP*4.4x6.5mm*P0.65mm*; Footprint: Package_SO:TSSOP-20_4.4x6.5mm_P0.65mm; Datasheet: http://www.ti.com/lit/ds/symlink/ads1243.pdf
pins: 1 VDD, 2 XIN, 3 XOUT, 4 ~{{PDWN}}, 5 VREF+, 6 VREF-, 7 Ain0/D0, 8 Ain1/D1, 9 Ain4/D4, 10 Ain5/D5, 11 Ain6/D6, 12 Ain7/D7, 13 Ain2/D2, 14 Ain3/D3, 15 GND, 16 ~{{CS}}, 17 DIN, 18 DOUT, 19 SCLK, 20 ~{{DRDY}}

## ADS1251
designator *  value ADS1251  Reference: U
ki_keywords: delta-sigma adc low-power; ki_description: Single channel 24-bit Analog to Digital Converter, 5V supply, differential input, 20kHz, 2-wire serial interface, SOIC-8; ki_fp_filters: SOIC*; Footprint: Package_SO:SOIC-8_3.9x4.9mm_P1.27mm; Datasheet: http://www.ti.com/lit/ds/symlink/ads1251.pdf
pins: 1 IN+, 2 IN-, 3 VCC, 4 CLK, 5 DOUT/nDRDY, 6 SCLK, 7 GND, 8 VREF

## ADS1298xPAG
designator *  value ADS1298xPAG  Reference: U
ki_keywords: 24bit ADC 8 Channels PGA SPI Biopotential; ki_description: ADS1298 Low-Power, 8-Channel, 24-Bit Analog Front-End for Biopotential Measurements, TQFP-64; ki_fp_filters: TQFP*10x10mm*P0.5mm*; Footprint: Package_QFP:TQFP-64_10x10mm_P0.5mm; Datasheet: http://www.ti.com/lit/ds/symlink/ads1298.pdf
pins: 1 IN8N, 2 IN8P, 3 IN7P, 4 IN7N, 5 IN6N, 6 IN6P, 7 IN5N, 8 IN5P, 9 IN4N, 10 IN4P, 11 IN3N, 12 IN3P, 13 IN2N, 14 IN2P, 15 IN1N, 16 IN1P, 17 TESTP_PACE_OUT1, 18 TESTP_PACE_OUT2, 19 AVDD, 20 AVSS, 21 AVDD hidden, 22 AVDD hidden, 23 AVSS hidden, 24 VREFP, 25 VREFN, 26 VCAP4, 27 NC hidden, 28 VCAP1, 29 NC hidden, 30 VCAP2, 31 RESV1, 32 AVSS hidden, 33 DGND, 34 DIN, 35 ~{{PWDN}}, 36 ~{{RESET}}, 37 CLK, 38 START, 39 ~{{CS}}, 40 SCLK, 41 DAISY_IN, 42 GPIO1, 43 DOUT, 44 GPIO2, 45 GPIO3, 46 GPIO4, 47 ~{{DRDY}}, 48 DVDD, 49 DGND hidden, 50 DVDD hidden, 51 DGND hidden, 52 CLKSEL, 53 AVSS1, 54 AVDD1, 55 VCAP3, 56 AVDD hidden, 57 AVSS hidden, 58 AVSS hidden, 59 AVDD hidden, 60 RLDREF, 61 RLDINV, 62 RLDIN, 63 RLDOUT, 64 WCT

## ADS7029
designator *  value ADS7029  Reference: U
ki_keywords: 8 bit SAR ADC; ki_description: Small-Size, Low-Power, 8-Bit, 2-MSPS, SAR ADC; ki_fp_filters: VSSOP*8*2.3x2mm*P0.5mm*; Footprint: Package_SO:VSSOP-8_2.3x2mm_P0.5mm; Datasheet: http://www.ti.com/lit/ds/symlink/ads7029-q1.pdf
pins: 1 DVDD, 2 SCLK, 3 SDO, 4 ~{{CS}}, 5 AINM, 6 AINP, 7 AVDD, 8 GND

## ADS7039
designator *  value ADS7039  Reference: U
ki_keywords: 10 bit SAR ADC; ki_description: Small-Size, Low-Power, 10-Bit, 2-MSPS, SAR ADC; ki_fp_filters: VSSOP*8*2.3x2mm*P0.5mm*; Footprint: Package_SO:VSSOP-8_2.3x2mm_P0.5mm; Datasheet: http://www.ti.com/lit/ds/symlink/ads7039-q1.pdf
pins: 1 DVDD, 2 SCLK, 3 SDO, 4 ~{{CS}}, 5 AINM, 6 AINP, 7 AVDD, 8 GND

## ADS7040xDCU
designator *  value ADS7040xDCU  Reference: U
ki_keywords: 8 bit SAR ADC; ki_description: Ultra-Low Power, Ultra-Small Size, 8-Bit, 1-MSPS, SAR ADC; ki_fp_filters: VSSOP*8*2.3x2mm*P0.5mm*; Footprint: Package_SO:VSSOP-8_2.3x2mm_P0.5mm; Datasheet: http://www.ti.com/lit/ds/symlink/ads7040.pdf
pins: 1 DVDD, 2 SCLK, 3 SDO, 4 ~{{CS}}, 5 AINM, 6 AINP, 7 AVDD, 8 GND

## ADS7041xDCU
designator *  value ADS7041xDCU  Reference: U
ki_keywords: 10 bit SAR ADC; ki_description: Ultra-Low Power, Ultra-Small Size, 10-Bit, 1-MSPS, SAR ADC; ki_fp_filters: VSSOP*8*2.3x2mm*P0.5mm*; Footprint: Package_SO:VSSOP-8_2.3x2mm_P0.5mm; Datasheet: http://www.ti.com/lit/ds/symlink/ads7041.pdf
pins: 1 DVDD, 2 SCLK, 3 SDO, 4 ~{{CS}}, 5 AINM, 6 AINP, 7 AVDD, 8 GND

## ADS7042xDCU
designator *  value ADS7042xDCU  Reference: U
ki_keywords: 12 bit SAR ADC; ki_description: Ultra-Low Power, Ultra-Small Size, 12-Bit, 1-MSPS, SAR ADC; ki_fp_filters: VSSOP*8*2.3x2mm*P0.5mm*; Footprint: Package_SO:VSSOP-8_2.3x2mm_P0.5mm; Datasheet: http://www.ti.com/lit/ds/symlink/ads7042.pdf
pins: 1 DVDD, 2 SCLK, 3 SDO, 4 ~{{CS}}, 5 AINM, 6 AINP, 7 AVDD, 8 GND

## ADS7043xDCU
designator *  value ADS7043xDCU  Reference: U
ki_keywords: 12 bit SAR ADC; ki_description: Ultra-Low Power, Ultra-Small Size, 12-Bit, 1-MSPS, SAR ADC; ki_fp_filters: VSSOP*8*2.3x2mm*P0.5mm*; Footprint: Package_SO:VSSOP-8_2.3x2mm_P0.5mm; Datasheet: http://www.ti.com/lit/ds/symlink/ads7043.pdf
pins: 1 DVDD, 2 SCLK, 3 SDO, 4 ~{{CS}}, 5 AINM, 6 AINP, 7 AVDD, 8 GND

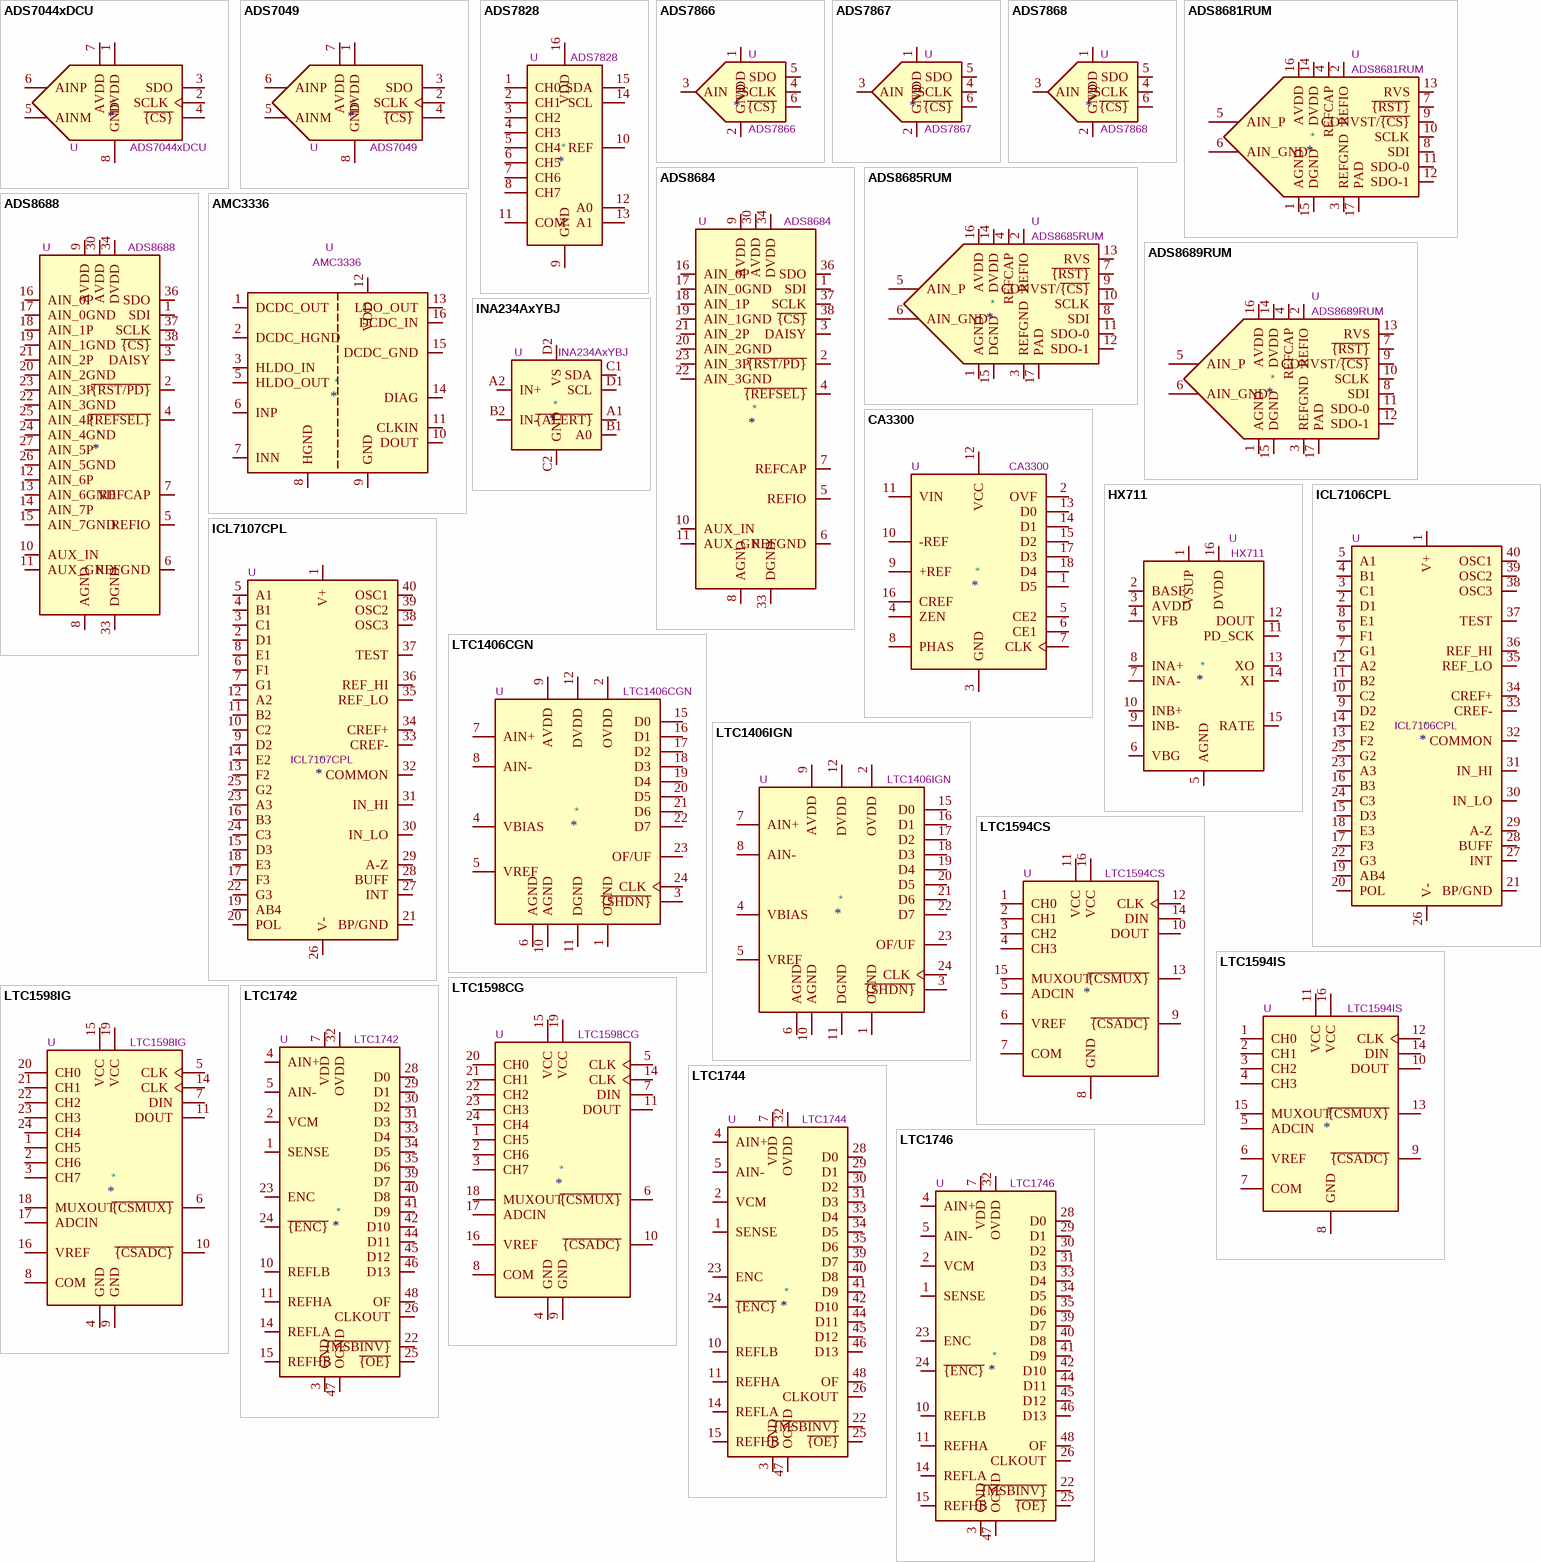
[diagram p2: symbols ADS7044xDCU to LTC1746]

## ADS7044xDCU
designator *  value ADS7044xDCU  Reference: U
ki_keywords: 12 bit SAR ADC; ki_description: Ultra-Low Power, Ultra-Small Size, 12-Bit, 1-MSPS, SAR ADC; ki_fp_filters: VSSOP*8*2.3x2mm*P0.5mm*; Footprint: Package_SO:VSSOP-8_2.3x2mm_P0.5mm; Datasheet: http://www.ti.com/lit/ds/symlink/ads7044.pdf
pins: 1 DVDD, 2 SCLK, 3 SDO, 4 ~{{CS}}, 5 AINM, 6 AINP, 7 AVDD, 8 GND

## ADS7049
designator *  value ADS7049  Reference: U
ki_keywords: 12 bit SAR ADC; ki_description: Small-Size, Low-Power, 12-Bit, 2-MSPS, SAR ADC; ki_fp_filters: VSSOP*8*2.3x2mm*P0.5mm*; Footprint: Package_SO:VSSOP-8_2.3x2mm_P0.5mm; Datasheet: http://www.ti.com/lit/ds/symlink/ads7049-q1.pdf
pins: 1 DVDD, 2 SCLK, 3 SDO, 4 ~{{CS}}, 5 AINM, 6 AINP, 7 AVDD, 8 GND

## ADS7828
designator *  value ADS7828  Reference: U
ki_keywords: I2C ADC 12Bits; ki_description: 12-Bits, 8-Channels, ADC, I2C, TSSOP-16; ki_fp_filters: TSSOP*4.4x5mm*P0.65mm*; Footprint: Package_SO:TSSOP-16_4.4x5mm_P0.65mm; Datasheet: http://www.ti.com/lit/ds/symlink/ads7828.pdf
pins: 1 CH0, 2 CH1, 3 CH2, 4 CH3, 5 CH4, 6 CH5, 7 CH6, 8 CH7, 9 GND, 10 REF, 11 COM, 12 A0, 13 A1, 14 SCL, 15 SDA, 16 VDD

## ADS7866
designator *  value ADS7866  Reference: U
ki_keywords: ADC; ki_description: Single Channel 12-bit ADC,  100-200ksps, SPI, micro-power, SOT-23-6; ki_fp_filters: *SOT?23?6*; Footprint: Package_TO_SOT_SMD:TSOT-23-6; Datasheet: http://www.ti.com/lit/ds/symlink/ads7866.pdf
pins: 1 VDD, 2 GND, 3 AIN, 4 SCLK, 5 SDO, 6 ~{{CS}}

## ADS7867
designator *  value ADS7867  Reference: U
ki_keywords: ADC; ki_description: Single Channel 10-bit ADC,  100-200ksps, SPI, micro-power, SOT-23-6; ki_fp_filters: *SOT?23?6*; Footprint: Package_TO_SOT_SMD:TSOT-23-6; Datasheet: http://www.ti.com/lit/ds/symlink/ads7866.pdf
pins: 1 VDD, 2 GND, 3 AIN, 4 SCLK, 5 SDO, 6 ~{{CS}}

## ADS7868
designator *  value ADS7868  Reference: U
ki_keywords: ADC; ki_description: Single Channel 8-bit ADC,  100-200ksps, SPI, micro-power, SOT-23-6; ki_fp_filters: *SOT?23?6*; Footprint: Package_TO_SOT_SMD:TSOT-23-6; Datasheet: http://www.ti.com/lit/ds/symlink/ads7866.pdf
pins: 1 VDD, 2 GND, 3 AIN, 4 SCLK, 5 SDO, 6 ~{{CS}}

## ADS8681RUM
designator *  value ADS8681RUM  Reference: U
ki_keywords: ADC SPI analog digital; ki_description: 16-Bit, High-Speed, Single-Supply, SAR ADC Data Acquisition System with Programmable, Bipolar Input Ranges, 1MSPS, QFN-16; ki_fp_filters: QFN*1EP*4x4mm*P0.65mm*EP2.7x2.7mm*; Footprint: Package_DFN_QFN:QFN-16-1EP_4x4mm_P0.65mm_EP2.7x2.7mm; Datasheet: http://www.ti.com/lit/ds/symlink/ads8681.pdf
pins: 1 AGND, 2 REFIO, 3 REFGND, 4 REFCAP, 5 AIN_P, 6 AIN_GND, 7 ~{{RST}}, 8 SDI, 9 CONVST/~{{CS}}, 10 SCLK, 11 SDO-0, 12 SDO-1, 13 RVS, 14 DVDD, 15 DGND, 16 AVDD, 17 PAD

## ADS8684
designator *  value ADS8684  Reference: U
ki_keywords: adc analog digital spi bipolar input; ki_description: 16-Bit, 500-kSPS, 4-Channels, Single-Supply, SAR ADC with Bipolar Input Range, TSSOP-38; ki_fp_filters: TSSOP*4.4x9.7mm*P0.5mm*; Footprint: Package_SO:TSSOP-38_4.4x9.7mm_P0.5mm; Datasheet: http://www.ti.com/lit/ds/symlink/ads8688.pdf
pins: 1 SDI, 2 ~{{RST/PD}}, 3 DAISY, 4 ~{{REFSEL}}, 5 REFIO, 6 REFGND, 7 REFCAP, 8 AGND, 9 AVDD, 10 AUX_IN, 11 AUX_GND, 12 NC hidden, 13 NC hidden, 14 NC hidden, 15 NC hidden, 16 AIN_0P, 17 AIN_0GND, 18 AIN_1P, 19 AIN_1GND, 20 AIN_2GND, 21 AIN_2P, 22 AIN_3GND, 23 AIN_3P, 24 NC hidden, 25 NC hidden, 26 NC hidden, 27 NC hidden, 28 AGND hidden, 29 AGND hidden, 30 AVDD, 31 AGND hidden, 32 AGND hidden, 33 DGND, 34 DVDD, 35 DNC hidden, 36 SDO, 37 SCLK, 38 ~{{CS}}

## ADS8685RUM
designator *  value ADS8685RUM  Reference: U
ki_keywords: ADC SPI analog digital; ki_description: 16-Bit, High-Speed, Single-Supply, SAR ADC Data Acquisition System with Programmable, Bipolar Input Ranges 500KSPS, QFN-16; ki_fp_filters: QFN*1EP*4x4mm*P0.65mm*EP2.7x2.7mm*; Footprint: Package_DFN_QFN:QFN-16-1EP_4x4mm_P0.65mm_EP2.7x2.7mm; Datasheet: http://www.ti.com/lit/ds/symlink/ads8681.pdf
pins: 1 AGND, 2 REFIO, 3 REFGND, 4 REFCAP, 5 AIN_P, 6 AIN_GND, 7 ~{{RST}}, 8 SDI, 9 CONVST/~{{CS}}, 10 SCLK, 11 SDO-0, 12 SDO-1, 13 RVS, 14 DVDD, 15 DGND, 16 AVDD, 17 PAD

## ADS8688
designator *  value ADS8688  Reference: U
ki_keywords: adc analog digital spi bipolar input; ki_description: 16-Bit, 500-kSPS, 8-Channels, Single-Supply, SAR ADC with Bipolar Input Range, TSSOP-38; ki_fp_filters: TSSOP*4.4x9.7mm*P0.5mm*; Footprint: Package_SO:TSSOP-38_4.4x9.7mm_P0.5mm; Datasheet: http://www.ti.com/lit/ds/symlink/ads8688.pdf
pins: 1 SDI, 2 ~{{RST/PD}}, 3 DAISY, 4 ~{{REFSEL}}, 5 REFIO, 6 REFGND, 7 REFCAP, 8 AGND, 9 AVDD, 10 AUX_IN, 11 AUX_GND, 12 AIN_6P, 13 AIN_6GND, 14 AIN_7P, 15 AIN_7GND, 16 AIN_0P, 17 AIN_0GND, 18 AIN_1P, 19 AIN_1GND, 20 AIN_2GND, 21 AIN_2P, 22 AIN_3GND, 23 AIN_3P, 24 AIN_4GND, 25 AIN_4P, 26 AIN_5GND, 27 AIN_5P, 28 AGND hidden, 29 AGND hidden, 30 AVDD, 31 AGND hidden, 32 AGND hidden, 33 DGND, 34 DVDD, 35 DNC hidden, 36 SDO, 37 SCLK, 38 ~{{CS}}

## ADS8689RUM
designator *  value ADS8689RUM  Reference: U
ki_keywords: ADC SPI analog digital; ki_description: 16-Bit, High-Speed, Single-Supply, SAR ADC Data Acquisition System with Programmable, Bipolar Input Ranges, 100KSPS, QFN-16; ki_fp_filters: QFN*1EP*4x4mm*P0.65mm*EP2.7x2.7mm*; Footprint: Package_DFN_QFN:QFN-16-1EP_4x4mm_P0.65mm_EP2.7x2.7mm; Datasheet: http://www.ti.com/lit/ds/symlink/ads8681.pdf
pins: 1 AGND, 2 REFIO, 3 REFGND, 4 REFCAP, 5 AIN_P, 6 AIN_GND, 7 ~{{RST}}, 8 SDI, 9 CONVST/~{{CS}}, 10 SCLK, 11 SDO-0, 12 SDO-1, 13 RVS, 14 DVDD, 15 DGND, 16 AVDD, 17 PAD

## AMC3336
designator *  value AMC3336  Reference: U
ki_keywords: isolated adc delta sigma integrated power supply; ki_description: Reinforced Isolated Delta-Sigma Modulator With Integrated DC/DC Converter, SOIC-16W; ki_fp_filters: SOIC*7.5x10.3mm*P1.27mm*; Footprint: Package_SO:SOIC-16W_7.5x10.3mm_P1.27mm; Datasheet: https://www.ti.com/lit/ds/symlink/amc3336.pdf
pins: 1 DCDC_OUT, 2 DCDC_HGND, 3 HLDO_IN, 4 NC hidden, 5 HLDO_OUT, 6 INP, 7 INN, 8 HGND, 9 GND, 10 DOUT, 11 CLKIN, 12 VDD, 13 LDO_OUT, 14 DIAG, 15 DCDC_GND, 16 DCDC_IN

## CA3300
designator *  value CA3300  Reference: U
ki_keywords: ADC CAN; ki_description: Convertisseur A->D 6 bits rapide
pins: 1 D5, 2 OVF, 3 GND, 4 ZEN, 5 CE2, 6 CE1, 7 CLK, 8 PHAS, 9 +REF, 10 -REF, 11 VIN, 12 VCC, 13 D0, 14 D1, 15 D2, 16 CREF, 17 D3, 18 D4

## HX711
designator *  value HX711  Reference: U
ki_keywords: adc load cell 24-bits analog weigh; ki_description: 24-Bit Analog-to-Digital Converter (ADC) for Weigh Scales; ki_fp_filters: SOP*3.9x9.9mm*P1.27mm*; Footprint: Package_SO:SOP-16_3.9x9.9mm_P1.27mm; Datasheet: https://cdn.sparkfun.com/datasheets/Sensors/ForceFlex/hx711_english.pdf
pins: 1 VSUP, 2 BASE, 3 AVDD, 4 VFB, 5 AGND, 6 VBG, 7 INA-, 8 INA+, 9 INB-, 10 INB+, 11 PD_SCK, 12 DOUT, 13 XO, 14 XI, 15 RATE, 16 DVDD

## ICL7106CPL
designator *  value ICL7106CPL  Reference: U
ki_keywords: LCD ADC; ki_description: 3 1/2 Digit, LCD Display, A/D Converter, DIP-40; ki_fp_filters: DIP*W15.24*; Footprint: Package_DIP:DIP-40_W15.24mm; Datasheet: https://www.renesas.com/eu/en/www/doc/datasheet/icl7106-07-07s.pdf
pins: 1 V+, 2 D1, 3 C1, 4 B1, 5 A1, 6 F1, 7 G1, 8 E1, 9 D2, 10 C2, 11 B2, 12 A2, 13 F2, 14 E2, 15 D3, 16 B3, 17 F3, 18 E3, 19 AB4, 20 POL, 21 BP/GND, 22 G3, 23 A3, 24 C3, 25 G2, 26 V-, 27 INT, 28 BUFF, 29 A-Z, 30 IN_LO, 31 IN_HI, 32 COMMON, 33 CREF-, 34 CREF+, 35 REF_LO, 36 REF_HI, 37 TEST, 38 OSC3, 39 OSC2, 40 OSC1

## ICL7107CPL
designator *  value ICL7107CPL  Reference: U
ki_keywords: LED ADC; ki_description: 3 1/2 Digit, LED Display, A/D Converter, DIP-40; ki_fp_filters: DIP*W15.24*; Footprint: Package_DIP:DIP-40_W15.24mm; Datasheet: https://www.renesas.com/eu/en/www/doc/datasheet/icl7106-07-07s.pdf
pins: 1 V+, 2 D1, 3 C1, 4 B1, 5 A1, 6 F1, 7 G1, 8 E1, 9 D2, 10 C2, 11 B2, 12 A2, 13 F2, 14 E2, 15 D3, 16 B3, 17 F3, 18 E3, 19 AB4, 20 POL, 21 BP/GND, 22 G3, 23 A3, 24 C3, 25 G2, 26 V-, 27 INT, 28 BUFF, 29 A-Z, 30 IN_LO, 31 IN_HI, 32 COMMON, 33 CREF-, 34 CREF+, 35 REF_LO, 36 REF_HI, 37 TEST, 38 OSC3, 39 OSC2, 40 OSC1

## INA234AxYBJ
designator *  value INA234AxYBJ  Reference: U
ki_keywords: ADC I2C 12-Bit Current Voltage Power Shunt; ki_description: Bidirectional Current/Voltage/Power Monitor (0-28V) With I2C Interface, DSBGA-8; ki_fp_filters: *DSBGA*0.705x1.468mm*P0.4mm*; Footprint: Package_BGA:Texas_DSBGA-8_0.705x1.468mm_Layout2x4_P0.4mm; Datasheet: https://www.ti.com/lit/ds/symlink/ina234.pdf
pins: A1 ~{{ALERT}}, A2 IN+, B1 A0, B2 IN-, C1 SDA, C2 GND, D1 SCL, D2 VS

## LTC1406CGN
designator *  value LTC1406CGN  Reference: U
ki_keywords: Low Power ADC 8bit 20Msps; ki_description: ADC 8bit Low Power 20Msps, SSOP-24; ki_fp_filters: SSOP*; Datasheet: https://www.analog.com/media/en/technical-documentation/data-sheets/1406f.pdf
pins: 1 OGND, 2 OVDD, 3 ~{{SHDN}}, 4 VBIAS, 5 VREF, 6 AGND, 7 AIN+, 8 AIN-, 9 AVDD, 10 AGND, 11 DGND, 12 DVDD, 13 NC hidden, 14 NC hidden, 15 D0, 16 D1, 17 D2, 18 D3, 19 D4, 20 D5, 21 D6, 22 D7, 23 OF/UF, 24 CLK

## LTC1406IGN
designator *  value LTC1406IGN  Reference: U
ki_keywords: Low Power ADC 8bit 20Msps; ki_description: ADC 8bit Low Power 20Msps, SSOP-24; ki_fp_filters: SSOP*; Datasheet: https://www.analog.com/media/en/technical-documentation/data-sheets/1406f.pdf
pins: 1 OGND, 2 OVDD, 3 ~{{SHDN}}, 4 VBIAS, 5 VREF, 6 AGND, 7 AIN+, 8 AIN-, 9 AVDD, 10 AGND, 11 DGND, 12 DVDD, 13 NC hidden, 14 NC hidden, 15 D0, 16 D1, 17 D2, 18 D3, 19 D4, 20 D5, 21 D6, 22 D7, 23 OF/UF, 24 CLK

## LTC1594CS
designator *  value LTC1594CS  Reference: U
ki_keywords: 12bit ADC 4 Channel; ki_description: Micropower 12-bit 4 Channel ADC, Serial IO, SOIC-16; ki_fp_filters: SO*; Datasheet: https://www.analog.com/media/en/technical-documentation/data-sheets/15948fb.pdf
pins: 1 CH0, 2 CH1, 3 CH2, 4 CH3, 5 ADCIN, 6 VREF, 7 COM, 8 GND, 9 ~{{CSADC}}, 10 DOUT, 11 VCC, 12 CLK, 13 ~{{CSMUX}}, 14 DIN, 15 MUXOUT, 16 VCC

## LTC1594IS
designator *  value LTC1594IS  Reference: U
ki_keywords: 12bit ADC 4 Channel; ki_description: Micropower 12-bit 4 Channel ADC, Serial IO, SO-16; ki_fp_filters: SO*; Datasheet: https://www.analog.com/media/en/technical-documentation/data-sheets/15948fb.pdf
pins: 1 CH0, 2 CH1, 3 CH2, 4 CH3, 5 ADCIN, 6 VREF, 7 COM, 8 GND, 9 ~{{CSADC}}, 10 DOUT, 11 VCC, 12 CLK, 13 ~{{CSMUX}}, 14 DIN, 15 MUXOUT, 16 VCC

## LTC1598CG
designator *  value LTC1598CG  Reference: U
ki_keywords: 12bit ADC 4 Channel; ki_description: Micropower 12-bit 8 Channel ADC, Serial IO, SSOP-24; ki_fp_filters: SSOP*; Datasheet: https://www.analog.com/media/en/technical-documentation/data-sheets/15948fb.pdf
pins: 1 CH5, 2 CH6, 3 CH7, 4 GND, 5 CLK, 6 ~{{CSMUX}}, 7 DIN, 8 COM, 9 GND, 10 ~{{CSADC}}, 11 DOUT, 12 NC hidden, 13 NC hidden, 14 CLK, 15 VCC, 16 VREF, 17 ADCIN, 18 MUXOUT, 19 VCC, 20 CH0, 21 CH1, 22 CH2, 23 CH3, 24 CH4

## LTC1598IG
designator *  value LTC1598IG  Reference: U
ki_keywords: 12bit ADC 4 Channel; ki_description: Micropower 12-bit 8 Channel ADC, Serial IO, SSOP-24; ki_fp_filters: SSOP*; Datasheet: https://www.analog.com/media/en/technical-documentation/data-sheets/15948fb.pdf
pins: 1 CH5, 2 CH6, 3 CH7, 4 GND, 5 CLK, 6 ~{{CSMUX}}, 7 DIN, 8 COM, 9 GND, 10 ~{{CSADC}}, 11 DOUT, 12 NC hidden, 13 NC hidden, 14 CLK, 15 VCC, 16 VREF, 17 ADCIN, 18 MUXOUT, 19 VCC, 20 CH0, 21 CH1, 22 CH2, 23 CH3, 24 CH4

## LTC1742
designator *  value LTC1742  Reference: U
ki_keywords: ADC analog digital converter pipeline; ki_description: 14-Bit, 65Msps, Low Noise, ADC, TSSOP-48; ki_fp_filters: TSSOP*6.1x12.5mm*P0.5mm*; Footprint: Package_SO:TSSOP-48_6.1x12.5mm_P0.5mm; Datasheet: https://www.analog.com/media/en/technical-documentation/data-sheets/1742f.pdf
pins: 1 SENSE, 2 VCM, 3 GND, 4 AIN+, 5 AIN-, 6 GND hidden, 7 VDD, 8 VDD hidden, 9 GND hidden, 10 REFLB, 11 REFHA, 12 GND hidden, 13 GND hidden, 14 REFLA, 15 REFHB, 16 GND hidden, 17 VDD hidden, 18 VDD hidden, 19 GND hidden, 20 VDD hidden, 21 GND hidden, 22 ~{{MSBINV}}, 23 ENC, 24 ~{{ENC}}, 25 ~{{OE}}, 26 CLKOUT, 27 OGND hidden, 28 D0, 29 D1, 30 D2, 31 D3, 32 OVDD, 33 D4, 34 D5, 35 D6, 36 GND hidden, 37 GND hidden, 38 OGND hidden, 39 D7, 40 D8, 41 D9, 42 D10, 43 OVDD hidden, 44 D11, 45 D12, 46 D13, 47 OGND, 48 OF

## LTC1744
designator *  value LTC1744  Reference: U
ki_keywords: ADC analog digital converter pipeline; ki_description: 14-Bit, 50Msps, ADC, TSSOP-48; ki_fp_filters: TSSOP*6.1x12.5mm*P0.5mm*; Footprint: Package_SO:TSSOP-48_6.1x12.5mm_P0.5mm; Datasheet: https://www.analog.com/media/en/technical-documentation/data-sheets/1744f.pdf
pins: 1 SENSE, 2 VCM, 3 GND, 4 AIN+, 5 AIN-, 6 GND hidden, 7 VDD, 8 VDD hidden, 9 GND hidden, 10 REFLB, 11 REFHA, 12 GND hidden, 13 GND hidden, 14 REFLA, 15 REFHB, 16 GND hidden, 17 VDD hidden, 18 VDD hidden, 19 GND hidden, 20 VDD hidden, 21 GND hidden, 22 ~{{MSBINV}}, 23 ENC, 24 ~{{ENC}}, 25 ~{{OE}}, 26 CLKOUT, 27 OGND hidden, 28 D0, 29 D1, 30 D2, 31 D3, 32 OVDD, 33 D4, 34 D5, 35 D6, 36 GND hidden, 37 GND hidden, 38 OGND hidden, 39 D7, 40 D8, 41 D9, 42 D10, 43 OVDD hidden, 44 D11, 45 D12, 46 D13, 47 OGND, 48 OF

## LTC1746
designator *  value LTC1746  Reference: U
ki_keywords: ADC analog digital converter pipeline; ki_description: Low Power, 14-Bit, 25Msps, ADC, TSSOP-48; ki_fp_filters: TSSOP*6.1x12.5mm*P0.5mm*; Footprint: Package_SO:TSSOP-48_6.1x12.5mm_P0.5mm; Datasheet: https://www.analog.com/media/en/technical-documentation/data-sheets/1746f.pdf
pins: 1 SENSE, 2 VCM, 3 GND, 4 AIN+, 5 AIN-, 6 GND hidden, 7 VDD, 8 VDD hidden, 9 GND hidden, 10 REFLB, 11 REFHA, 12 GND hidden, 13 GND hidden, 14 REFLA, 15 REFHB, 16 GND hidden, 17 VDD hidden, 18 VDD hidden, 19 GND hidden, 20 VDD hidden, 21 GND hidden, 22 ~{{MSBINV}}, 23 ENC, 24 ~{{ENC}}, 25 ~{{OE}}, 26 CLKOUT, 27 OGND hidden, 28 D0, 29 D1, 30 D2, 31 D3, 32 OVDD, 33 D4, 34 D5, 35 D6, 36 GND hidden, 37 GND hidden, 38 OGND hidden, 39 D7, 40 D8, 41 D9, 42 D10, 43 OVDD hidden, 44 D11, 45 D12, 46 D13, 47 OGND, 48 OF

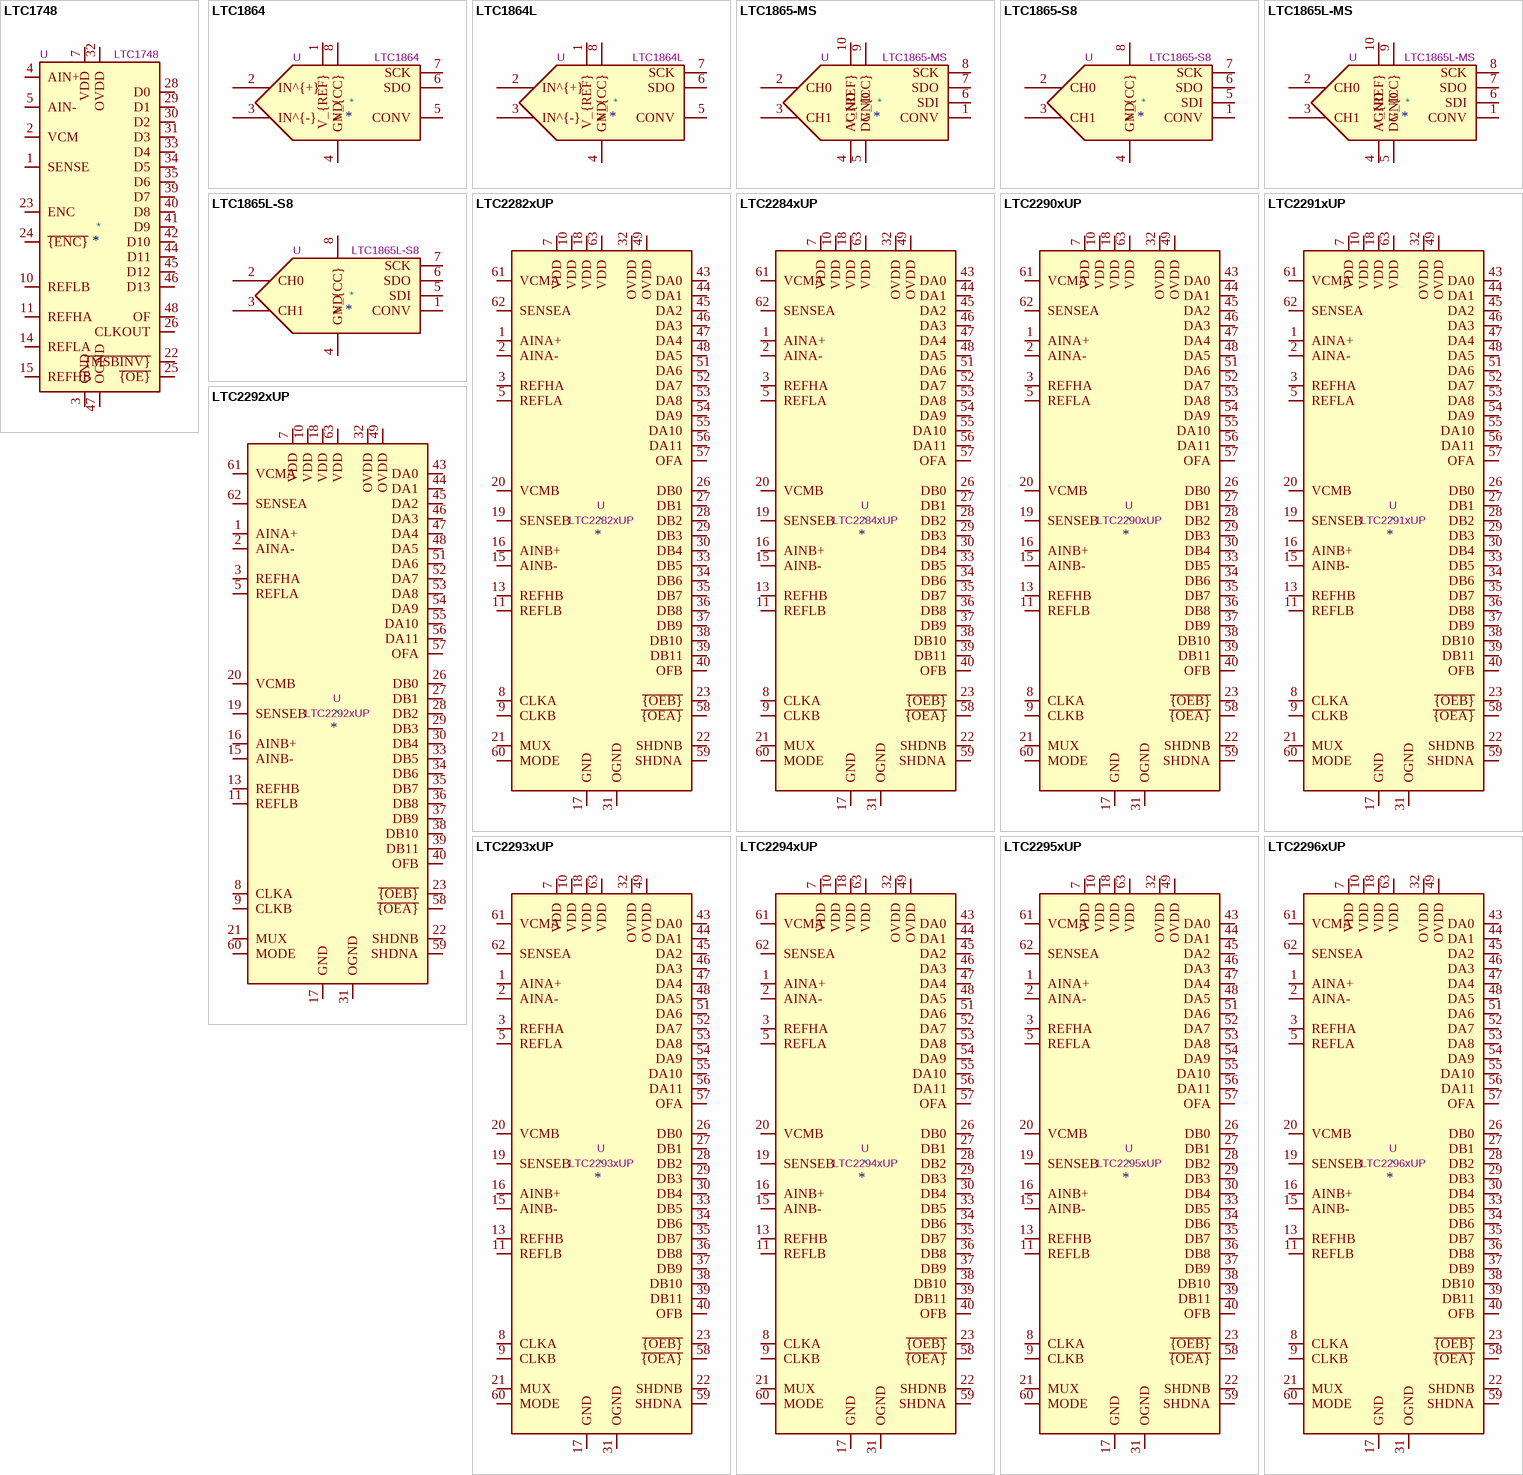
[diagram p3: symbols LTC1748 to LTC2296xUP]

## LTC1748
designator *  value LTC1748  Reference: U
ki_keywords: ADC analog digital converter pipeline; ki_description: 14-Bit, 80Msps, Low Noise, ADC, TSSOP-48; ki_fp_filters: TSSOP*6.1x12.5mm*P0.5mm*; Footprint: Package_SO:TSSOP-48_6.1x12.5mm_P0.5mm; Datasheet: https://www.analog.com/media/en/technical-documentation/data-sheets/1748fa.pdf
pins: 1 SENSE, 2 VCM, 3 GND, 4 AIN+, 5 AIN-, 6 GND hidden, 7 VDD, 8 VDD hidden, 9 GND hidden, 10 REFLB, 11 REFHA, 12 GND hidden, 13 GND hidden, 14 REFLA, 15 REFHB, 16 GND hidden, 17 VDD hidden, 18 VDD hidden, 19 GND hidden, 20 VDD hidden, 21 GND hidden, 22 ~{{MSBINV}}, 23 ENC, 24 ~{{ENC}}, 25 ~{{OE}}, 26 CLKOUT, 27 OGND hidden, 28 D0, 29 D1, 30 D2, 31 D3, 32 OVDD, 33 D4, 34 D5, 35 D6, 36 GND hidden, 37 GND hidden, 38 OGND hidden, 39 D7, 40 D8, 41 D9, 42 D10, 43 OVDD hidden, 44 D11, 45 D12, 46 D13, 47 OGND, 48 OF

## LTC1864
designator *  value LTC1864  Reference: U
ki_keywords: adc spi 1ch; ki_description: Single channel 16-bit SAR Analog to Digital Converter, 5V supply, differential input, 150ksps, SPI interface; ki_fp_filters: MSOP*3x3mm*P0.65mm* SOIC*3.9x4.9mm*P1.27mm*; Datasheet: https://www.analog.com/media/en/technical-documentation/data-sheets/18645fb.pdf
pins: 1 V_{REF}, 2 IN^{+}, 3 IN^{-}, 4 GND, 5 CONV, 6 SDO, 7 SCK, 8 V_{CC}

## LTC1864L
designator *  value LTC1864L  Reference: U
ki_keywords: adc spi 1ch; ki_description: Single channel 16-bit SAR Analog to Digital Converter, 3V supply, differential input, 150ksps, SPI interface; ki_fp_filters: MSOP*3x3mm*P0.65mm* SOIC*3.9x4.9mm*P1.27mm*; Datasheet: https://www.analog.com/media/en/technical-documentation/data-sheets/18645lfs.pdf
pins: 1 V_{REF}, 2 IN^{+}, 3 IN^{-}, 4 GND, 5 CONV, 6 SDO, 7 SCK, 8 V_{CC}

## LTC1865-MS
designator *  value LTC1865-MS  Reference: U
ki_keywords: adc 2ch; ki_description: Dual channel 16-bit SAR Analog to Digital Converter, 5V supply, 150ksps, SPI interface; ki_fp_filters: MSOP*3x3mm*P0.5mm*; Footprint: Package_SO:MSOP-10_3x3mm_P0.5mm; Datasheet: https://www.analog.com/media/en/technical-documentation/data-sheets/18645fb.pdf
pins: 1 CONV, 2 CH0, 3 CH1, 4 AGND, 5 DGND, 6 SDI, 7 SDO, 8 SCK, 9 V_{CC}, 10 V_{REF}

## LTC1865-S8
designator *  value LTC1865-S8  Reference: U
ki_keywords: adc 2ch; ki_description: Dual channel 16-bit SAR Analog to Digital Converter, 5V supply, 150ksps, SPI interface; ki_fp_filters: SOIC*3.9x4.9mm*P1.27mm*; Footprint: Package_SO:SOIC-8_3.9x4.9mm_P1.27mm; Datasheet: https://www.analog.com/media/en/technical-documentation/data-sheets/18645fb.pdf
pins: 1 CONV, 2 CH0, 3 CH1, 4 GND, 5 SDI, 6 SDO, 7 SCK, 8 V_{CC}

## LTC1865L-MS
designator *  value LTC1865L-MS  Reference: U
ki_keywords: adc 2ch; ki_description: Dual channel 16-bit SAR Analog to Digital Converter, 3V supply, 150ksps, SPI interface; ki_fp_filters: MSOP*3x3mm*P0.5mm*; Footprint: Package_SO:MSOP-10_3x3mm_P0.5mm; Datasheet: https://www.analog.com/media/en/technical-documentation/data-sheets/18645lfs.pdf
pins: 1 CONV, 2 CH0, 3 CH1, 4 AGND, 5 DGND, 6 SDI, 7 SDO, 8 SCK, 9 V_{CC}, 10 V_{REF}

## LTC1865L-S8
designator *  value LTC1865L-S8  Reference: U
ki_keywords: adc 2ch; ki_description: Dual channel 16-bit SAR Analog to Digital Converter, 3V supply, 150ksps, SPI interface; ki_fp_filters: SOIC*3.9x4.9mm*P1.27mm*; Footprint: Package_SO:SOIC-8_3.9x4.9mm_P1.27mm; Datasheet: https://www.analog.com/media/en/technical-documentation/data-sheets/18645lfs.pdf
pins: 1 CONV, 2 CH0, 3 CH1, 4 GND, 5 SDI, 6 SDO, 7 SCK, 8 V_{CC}

## LTC2282xUP
designator *  value LTC2282xUP  Reference: U
ki_keywords: ADC; ki_description: Dual-Channel, 12-Bit Low Power ADC, 105Msps, QFN-64; ki_fp_filters: QFN*1EP*9x9mm*P0.5mm*; Footprint: Package_DFN_QFN:QFN-64-1EP_9x9mm_P0.5mm_EP7.15x7.15mm; Datasheet: https://www.analog.com/media/en/technical-documentation/data-sheets/2282fb.pdf
pins: 1 AINA+, 2 AINA-, 3 REFHA, 4 REFHA hidden, 5 REFLA, 6 REFLA hidden, 7 VDD, 8 CLKA, 9 CLKB, 10 VDD, 11 REFLB, 12 REFLB hidden, 13 REFHB, 14 REFHB hidden, 15 AINB-, 16 AINB+, 17 GND, 18 VDD, 19 SENSEB, 20 VCMB, 21 MUX, 22 SHDNB, 23 ~{{OEB}}, 24 NC hidden, 25 NC hidden, 26 DB0, 27 DB1, 28 DB2, 29 DB3, 30 DB4, 31 OGND, 32 OVDD, 33 DB5, 34 DB6, 35 DB7, 36 DB8, 37 DB9, 38 DB10, 39 DB11, 40 OFB, 41 NC hidden, 42 NC hidden, 43 DA0, 44 DA1, 45 DA2, 46 DA3, 47 DA4, 48 DA5, 49 OVDD, 50 OGND hidden, 51 DA6, 52 DA7, 53 DA8, 54 DA9, 55 DA10, 56 DA11, 57 OFA, 58 ~{{OEA}}, 59 SHDNA, 60 MODE, 61 VCMA, 62 SENSEA, 63 VDD, 64 GND hidden, 65 GND hidden

## LTC2284xUP
designator *  value LTC2284xUP  Reference: U
ki_keywords: ADC; ki_description: Dual-Channel, 14-Bit Low Power ADC, 105Msps, QFN-64; ki_fp_filters: QFN*1EP*9x9mm*P0.5mm*; Footprint: Package_DFN_QFN:QFN-64-1EP_9x9mm_P0.5mm_EP7.15x7.15mm; Datasheet: https://www.analog.com/media/en/technical-documentation/data-sheets/2284fa.pdf
pins: 1 AINA+, 2 AINA-, 3 REFHA, 4 REFHA hidden, 5 REFLA, 6 REFLA hidden, 7 VDD, 8 CLKA, 9 CLKB, 10 VDD, 11 REFLB, 12 REFLB hidden, 13 REFHB, 14 REFHB hidden, 15 AINB-, 16 AINB+, 17 GND, 18 VDD, 19 SENSEB, 20 VCMB, 21 MUX, 22 SHDNB, 23 ~{{OEB}}, 24 NC hidden, 25 NC hidden, 26 DB0, 27 DB1, 28 DB2, 29 DB3, 30 DB4, 31 OGND, 32 OVDD, 33 DB5, 34 DB6, 35 DB7, 36 DB8, 37 DB9, 38 DB10, 39 DB11, 40 OFB, 41 NC hidden, 42 NC hidden, 43 DA0, 44 DA1, 45 DA2, 46 DA3, 47 DA4, 48 DA5, 49 OVDD, 50 OGND hidden, 51 DA6, 52 DA7, 53 DA8, 54 DA9, 55 DA10, 56 DA11, 57 OFA, 58 ~{{OEA}}, 59 SHDNA, 60 MODE, 61 VCMA, 62 SENSEA, 63 VDD, 64 GND hidden, 65 GND hidden